# Altium schematic symbol library Interface.SchLib: 107 symbols (part 1 of 2)
Pins are listed as number, name and electrical type; pins without a type are passive.

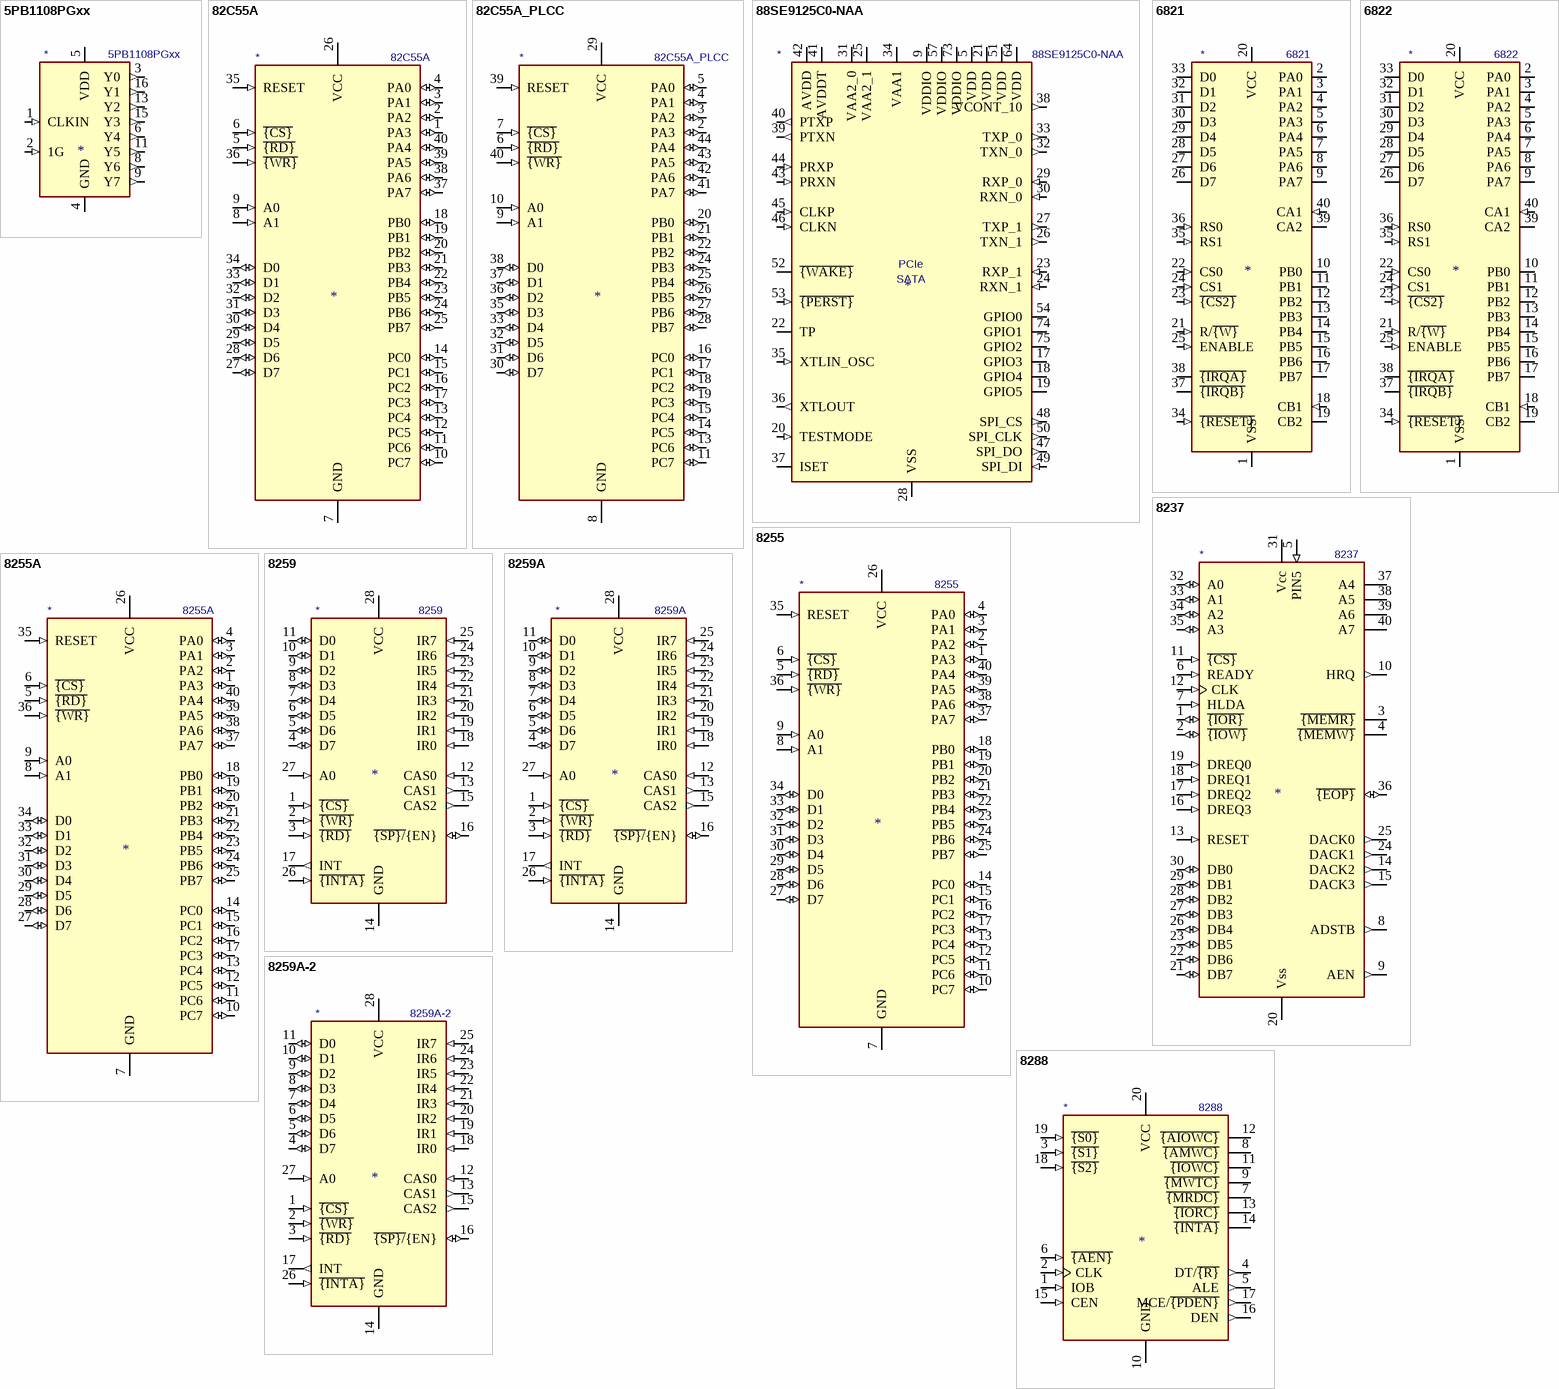
[diagram p0: symbols 5PB1108PGxx to 8288]

## 5PB1108PGxx
designator *  value 5PB1108PGxx
ki_keywords: clock buffer lvcmos; ki_description: 1:8 LVCMOS High-Performance Clock Buffer, 1.8V to 3.3V, TSSOP-16; ki_fp_filters: TSSOP*4.4x5mm*P0.65mm*; Footprint: Package_SO:TSSOP-16_4.4x5mm_P0.65mm; Supplier: https://www.idt.com/document/dst/5pb11xx-datasheet
footprint TSSOP-16_4.4x5mm_P0.65mm
pins: 1 CLKIN (in), 2 1G (in), 3 Y0 (out), 4 GND (power), 5 VDD (power), 6 Y4 (out), 7 GND hidden, 8 Y6 (out), 9 Y7 (out), 10 VDD hidden, 11 Y5 (out), 12 GND hidden, 13 Y2 (out), 14 VDD hidden, 15 Y3 (out), 16 Y1 (out)

## 82C55A
designator *  value 82C55A
ki_keywords: 8255 PPI; ki_description: CHMOS Programmable Peripheral Interface, PDIP-40; ki_fp_filters: DIP*W15.24mm* PDIP*W15.24mm*; Footprint: Package_DIP:DIP-40_W15.24mm; Supplier: http://jap.hu/electronic/8255.pdf
footprint DIP-40_W15.24mm
pins: 1 PA3 (io), 2 PA2 (io), 3 PA1 (io), 4 PA0 (io), 5 ~{{RD}} (in), 6 ~{{CS}} (in), 7 GND (power), 8 A1 (in), 9 A0 (in), 10 PC7 (io), 11 PC6 (io), 12 PC5 (io), 13 PC4 (io), 14 PC0 (io), 15 PC1 (io), 16 PC2 (io), 17 PC3 (io), 18 PB0 (io), 19 PB1 (io), 20 PB2 (io), 21 PB3 (io), 22 PB4 (io), 23 PB5 (io), 24 PB6 (io), 25 PB7 (io), 26 VCC (power), 27 D7 (io), 28 D6 (io), 29 D5 (io), 30 D4 (io), 31 D3 (io), 32 D2 (io), 33 D1 (io), 34 D0 (io), 35 RESET (in), 36 ~{{WR}} (in), 37 PA7 (io), 38 PA6 (io), 39 PA5 (io), 40 PA4 (io)

## 82C55A_PLCC
designator *  value 82C55A_PLCC
ki_keywords: 8255 PPI; ki_description: CHMOS Programmable Peripheral Interface, PLCC-44; ki_fp_filters: *PLCC?44*; Footprint: Package_LCC:PLCC-44; Supplier: http://jap.hu/electronic/8255.pdf
footprint PLCC-44
pins: 1 NC (in) hidden, 2 PA3 (io), 3 PA2 (io), 4 PA1 (io), 5 PA0 (io), 6 ~{{RD}} (in), 7 ~{{CS}} (in), 8 GND (power), 9 A1 (in), 10 A0 (in), 11 PC7 (io), 12 NC (in) hidden, 13 PC6 (io), 14 PC5 (io), 15 PC4 (io), 16 PC0 (io), 17 PC1 (io), 18 PC2 (io), 19 PC3 (io), 20 PB0 (io), 21 PB1 (io), 22 PB2 (io), 23 NC (in) hidden, 24 PB3 (io), 25 PB4 (io), 26 PB5 (io), 27 PB6 (io), 28 PB7 (io), 29 VCC (power), 30 D7 (io), 31 D6 (io), 32 D5 (io), 33 D4 (io), 34 NC (in) hidden, 35 D3 (io), 36 D2 (io), 37 D1 (io), 38 D0 (io), 39 RESET (in), 40 ~{{WR}} (in), 41 PA7 (io), 42 PA6 (io), 43 PA5 (io), 44 PA4 (io)

## 88SE9125C0-NAA
designator *  value 88SE9125C0-NAA
ki_keywords: PCIe2.0 SATA3.0; ki_description: One-Lane PCIe SATA Two-Ports Controller, QFN-76; ki_fp_filters: QFN*1EP*9x9mm*P0.4mm*; Footprint: Package_DFN_QFN:QFN-76-1EP_9x9mm_P0.4mm_EP3.8x3.8mm; Supplier: https://www.marvell.com/documents/bqcwxsoiqfjkcjdjhkvc/
footprint QFN-76-1EP_9x9mm_P0.4mm_EP3.8x3.8mm
pins: 1 NC (in) hidden, 2 NC (in) hidden, 3 NC (in) hidden, 4 NC (in) hidden, 5 VDD (power), 6 NC (in) hidden, 7 NC (in) hidden, 8 NC (in) hidden, 9 VDDIO (power), 10 NC (in) hidden, 11 NC (in) hidden, 12 NC (in) hidden, 13 VDD hidden, 14 NC (in) hidden, 15 NC (in) hidden, 16 NC (in) hidden, 17 GPIO3 (io), 18 GPIO4 (io), 19 GPIO5 (io), 20 TESTMODE (in), 21 VDD (power), 22 TP (io), 23 RXP_1 (in), 24 RXN_1 (in), 25 VAA2_1 (power), 26 TXN_1 (out), 27 TXP_1 (out), 28 VSS (power), 29 RXP_0 (in), 30 RXN_0 (in), 31 VAA2_0 (power), 32 TXN_0 (out), 33 TXP_0 (out), 34 VAA1 (power), 35 XTLIN_OSC (in), 36 XTLOUT (out), 37 ISET (io), 38 VCONT_10 (out), 39 PTXN (out), 40 PTXP (out), 41 AVDDT (power), 42 AVDD (power), 43 PRXN (in), 44 PRXP (in), 45 CLKP (in), 46 CLKN (in), 47 SPI_DO (out), 48 SPI_CS (out), 49 SPI_DI (in), 50 SPI_CLK (out), 51 VDD (power), 52 ~{{WAKE}} (oc), 53 ~{{PERST}} (in), 54 GPIO0 (io), 55 NC (in) hidden, 56 NC (in) hidden, 57 VDDIO (power), 58 NC (in) hidden, 59 NC (in) hidden, 60 NC (in) hidden, 61 NC (in) hidden, 62 NC (in) hidden, 63 NC (in) hidden, 64 VDD (power), 65 NC (in) hidden, 66 NC (in) hidden, 67 NC (in) hidden, 68 NC (in) hidden, 69 NC (in) hidden, 70 NC (in) hidden, 71 VDD hidden, 72 NC (in) hidden, 73 VDDIO (power), 74 GPIO1 (io), 75 GPIO2 (io), 76 NC (in) hidden, 77 VSS hidden
text: PCIe; SATA

## 6821
designator *  value 6821
ki_keywords: PIA; ki_description: Peripheral Interface Adapter 1MHz, DIP-40; ki_fp_filters: DIP*W15.24mm*; Footprint: Package_DIP:DIP-40_W15.24mm; Supplier: http://pdf.datasheetcatalog.com/datasheet/motorola/6821.pdf
footprint DIP-40_W15.24mm
pins: 1 VSS (power), 2 PA0 (io), 3 PA1 (io), 4 PA2 (io), 5 PA3 (io), 6 PA4 (io), 7 PA5 (io), 8 PA6 (io), 9 PA7 (io), 10 PB0 (io), 11 PB1 (io), 12 PB2 (io), 13 PB3 (io), 14 PB4 (io), 15 PB5 (io), 16 PB6 (io), 17 PB7 (io), 18 CB1 (in), 19 CB2 (io), 20 VCC (power), 21 R/~{{W}} (in), 22 CS0 (in), 23 ~{{CS2}} (in), 24 CS1 (in), 25 ENABLE (in), 26 D7 (io), 27 D6 (io), 28 D5 (io), 29 D4 (io), 30 D3 (io), 31 D2 (io), 32 D1 (io), 33 D0 (io), 34 ~{{RESET}} (in), 35 RS1 (in), 36 RS0 (in), 37 ~{{IRQB}} (oc), 38 ~{{IRQA}} (oc), 39 CA2 (io), 40 CA1 (in)

## 6822
designator *  value 6822
ki_keywords: PIA; ki_description: Peripheral Interface Adapter 1MHz, DIP-40; ki_fp_filters: DIP*W15.24mm*; Footprint: Package_DIP:DIP-40_W15.24mm; Supplier: http://pdf1.alldatasheet.com/datasheet-pdf/view/135452/MOTOROLA/MC6822.html
footprint DIP-40_W15.24mm
pins: 1 VSS (power), 2 PA0 (io), 3 PA1 (io), 4 PA2 (io), 5 PA3 (io), 6 PA4 (io), 7 PA5 (io), 8 PA6 (io), 9 PA7 (io), 10 PB0 (io), 11 PB1 (io), 12 PB2 (io), 13 PB3 (io), 14 PB4 (io), 15 PB5 (io), 16 PB6 (io), 17 PB7 (io), 18 CB1 (in), 19 CB2 (io), 20 VCC (power), 21 R/~{{W}} (in), 22 CS0 (in), 23 ~{{CS2}} (in), 24 CS1 (in), 25 ENABLE (in), 26 D7 (io), 27 D6 (io), 28 D5 (io), 29 D4 (io), 30 D3 (io), 31 D2 (io), 32 D1 (io), 33 D0 (io), 34 ~{{RESET}} (in), 35 RS1 (in), 36 RS0 (in), 37 ~{{IRQB}} (oc), 38 ~{{IRQA}} (oc), 39 CA2 (io), 40 CA1 (in)

## 8237
designator *  value 8237
ki_keywords: 8237 DMA; ki_description: Programmable DMA Controller, PDIP-40; ki_fp_filters: DIP*W15.24mm* PDIP*W15.24mm*; Footprint: Package_DIP:DIP-40_W15.24mm; Supplier: https://pdos.csail.mit.edu/6.828/2012/readings/hardware/8237A.pdf
footprint DIP-40_W15.24mm
pins: 1 ~{{IOR}} (io), 2 ~{{IOW}} (io), 3 ~{{MEMR}} (hiz), 4 ~{{MEMW}} (hiz), 5 PIN5 (in), 6 READY (in), 7 HLDA (in), 8 ADSTB (out), 9 AEN (out), 10 HRQ (out), 11 ~{{CS}} (in), 12 CLK (in), 13 RESET (in), 14 DACK2 (out), 15 DACK3 (out), 16 DREQ3 (in), 17 DREQ2 (in), 18 DREQ1 (in), 19 DREQ0 (in), 20 Vss (power), 21 DB7 (io), 22 DB6 (io), 23 DB5 (io), 24 DACK1 (out), 25 DACK0 (out), 26 DB4 (io), 27 DB3 (io), 28 DB2 (io), 29 DB1 (io), 30 DB0 (io), 31 Vcc (power), 32 A0 (io), 33 A1 (io), 34 A2 (io), 35 A3 (io), 36 ~{{EOP}} (io), 37 A4 (hiz), 38 A5 (hiz), 39 A6 (hiz), 40 A7 (hiz)

## 8255
designator *  value 8255
ki_keywords: 8255 PPI; ki_description: Programmable Peripheral Interface, PDIP-40; ki_fp_filters: DIP*W15.24mm* PDIP*W15.24mm*; Footprint: Package_DIP:DIP-40_W15.24mm; Supplier: http://aturing.umcs.maine.edu/~meadow/courses/cos335/Intel8255A.pdf
footprint DIP-40_W15.24mm
pins: 1 PA3 (io), 2 PA2 (io), 3 PA1 (io), 4 PA0 (io), 5 ~{{RD}} (in), 6 ~{{CS}} (in), 7 GND (power), 8 A1 (in), 9 A0 (in), 10 PC7 (io), 11 PC6 (io), 12 PC5 (io), 13 PC4 (io), 14 PC0 (io), 15 PC1 (io), 16 PC2 (io), 17 PC3 (io), 18 PB0 (io), 19 PB1 (io), 20 PB2 (io), 21 PB3 (io), 22 PB4 (io), 23 PB5 (io), 24 PB6 (io), 25 PB7 (io), 26 VCC (power), 27 D7 (io), 28 D6 (io), 29 D5 (io), 30 D4 (io), 31 D3 (io), 32 D2 (io), 33 D1 (io), 34 D0 (io), 35 RESET (in), 36 ~{{WR}} (in), 37 PA7 (io), 38 PA6 (io), 39 PA5 (io), 40 PA4 (io)

## 8255A
designator *  value 8255A
ki_keywords: 8255 PPI; ki_description: Programmable Peripheral Interface, PDIP-40; ki_fp_filters: DIP*W15.24mm* PDIP*W15.24mm*; Footprint: Package_DIP:DIP-40_W15.24mm; Supplier: http://aturing.umcs.maine.edu/~meadow/courses/cos335/Intel8255A.pdf
footprint DIP-40_W15.24mm
pins: 1 PA3 (io), 2 PA2 (io), 3 PA1 (io), 4 PA0 (io), 5 ~{{RD}} (in), 6 ~{{CS}} (in), 7 GND (power), 8 A1 (in), 9 A0 (in), 10 PC7 (io), 11 PC6 (io), 12 PC5 (io), 13 PC4 (io), 14 PC0 (io), 15 PC1 (io), 16 PC2 (io), 17 PC3 (io), 18 PB0 (io), 19 PB1 (io), 20 PB2 (io), 21 PB3 (io), 22 PB4 (io), 23 PB5 (io), 24 PB6 (io), 25 PB7 (io), 26 VCC (power), 27 D7 (io), 28 D6 (io), 29 D5 (io), 30 D4 (io), 31 D3 (io), 32 D2 (io), 33 D1 (io), 34 D0 (io), 35 RESET (in), 36 ~{{WR}} (in), 37 PA7 (io), 38 PA6 (io), 39 PA5 (io), 40 PA4 (io)

## 8259
designator *  value 8259
ki_keywords: PIC; ki_description: 8259, Programmable Interrupt Controller, PDIP-28; ki_fp_filters: DIP*W15.24mm*; Footprint: Package_DIP:DIP-28_W15.24mm; Supplier: http://pdos.csail.mit.edu/6.828/2005/readings/hardware/8259A.pdf
footprint DIP-28_W15.24mm
pins: 1 ~{{CS}} (in), 2 ~{{WR}} (in), 3 ~{{RD}} (in), 4 D7 (io), 5 D6 (io), 6 D5 (io), 7 D4 (io), 8 D3 (io), 9 D2 (io), 10 D1 (io), 11 D0 (io), 12 CAS0 (in), 13 CAS1 (out), 14 GND (power), 15 CAS2 (out), 16 ~{{SP}/}{EN} (io), 17 INT (out), 18 IR0 (in), 19 IR1 (in), 20 IR2 (in), 21 IR3 (in), 22 IR4 (in), 23 IR5 (in), 24 IR6 (in), 25 IR7 (in), 26 ~{{INTA}} (in), 27 A0 (in), 28 VCC (power)

## 8259A
designator *  value 8259A
ki_keywords: PIC; ki_description: 8259, Programmable Interrupt Controller, PDIP-28; ki_fp_filters: DIP*W15.24mm*; Footprint: Package_DIP:DIP-28_W15.24mm; Supplier: http://pdos.csail.mit.edu/6.828/2005/readings/hardware/8259A.pdf
footprint DIP-28_W15.24mm
pins: 1 ~{{CS}} (in), 2 ~{{WR}} (in), 3 ~{{RD}} (in), 4 D7 (io), 5 D6 (io), 6 D5 (io), 7 D4 (io), 8 D3 (io), 9 D2 (io), 10 D1 (io), 11 D0 (io), 12 CAS0 (in), 13 CAS1 (out), 14 GND (power), 15 CAS2 (out), 16 ~{{SP}/}{EN} (io), 17 INT (out), 18 IR0 (in), 19 IR1 (in), 20 IR2 (in), 21 IR3 (in), 22 IR4 (in), 23 IR5 (in), 24 IR6 (in), 25 IR7 (in), 26 ~{{INTA}} (in), 27 A0 (in), 28 VCC (power)

## 8259A-2
designator *  value 8259A-2
ki_keywords: PIC; ki_description: 8259, Programmable Interrupt Controller, PDIP-28; ki_fp_filters: DIP*W15.24mm*; Footprint: Package_DIP:DIP-28_W15.24mm; Supplier: http://pdos.csail.mit.edu/6.828/2005/readings/hardware/8259A.pdf
footprint DIP-28_W15.24mm
pins: 1 ~{{CS}} (in), 2 ~{{WR}} (in), 3 ~{{RD}} (in), 4 D7 (io), 5 D6 (io), 6 D5 (io), 7 D4 (io), 8 D3 (io), 9 D2 (io), 10 D1 (io), 11 D0 (io), 12 CAS0 (in), 13 CAS1 (out), 14 GND (power), 15 CAS2 (out), 16 ~{{SP}/}{EN} (io), 17 INT (out), 18 IR0 (in), 19 IR1 (in), 20 IR2 (in), 21 IR3 (in), 22 IR4 (in), 23 IR5 (in), 24 IR6 (in), 25 IR7 (in), 26 ~{{INTA}} (in), 27 A0 (in), 28 VCC (power)

## 8288
designator *  value 8288
ki_keywords: Bus Controller; ki_description: Bus Controller for Intel 8086/8088/80186/80188 microprocessors, DIP-20; ki_fp_filters: DIP*W7.62mm*; Footprint: Package_DIP:DIP-20_W7.62mm; Supplier: http://www.datasheets360.com/pdf/7208679415653955300
footprint DIP-20_W7.62mm
pins: 1 IOB (in), 2 CLK (in), 3 ~{{S1}} (in), 4 DT/~{{R}} (out), 5 ALE (out), 6 ~{{AEN}} (in), 7 ~{{MRDC}} (hiz), 8 ~{{AMWC}} (hiz), 9 ~{{MWTC}} (hiz), 10 GND (power), 11 ~{{IOWC}} (hiz), 12 ~{{AIOWC}} (hiz), 13 ~{{IORC}} (hiz), 14 ~{{INTA}} (hiz), 15 CEN (in), 16 DEN (out), 17 MCE/~{{PDEN}} (out), 18 ~{{S2}} (in), 19 ~{{S0}} (in), 20 VCC (power)

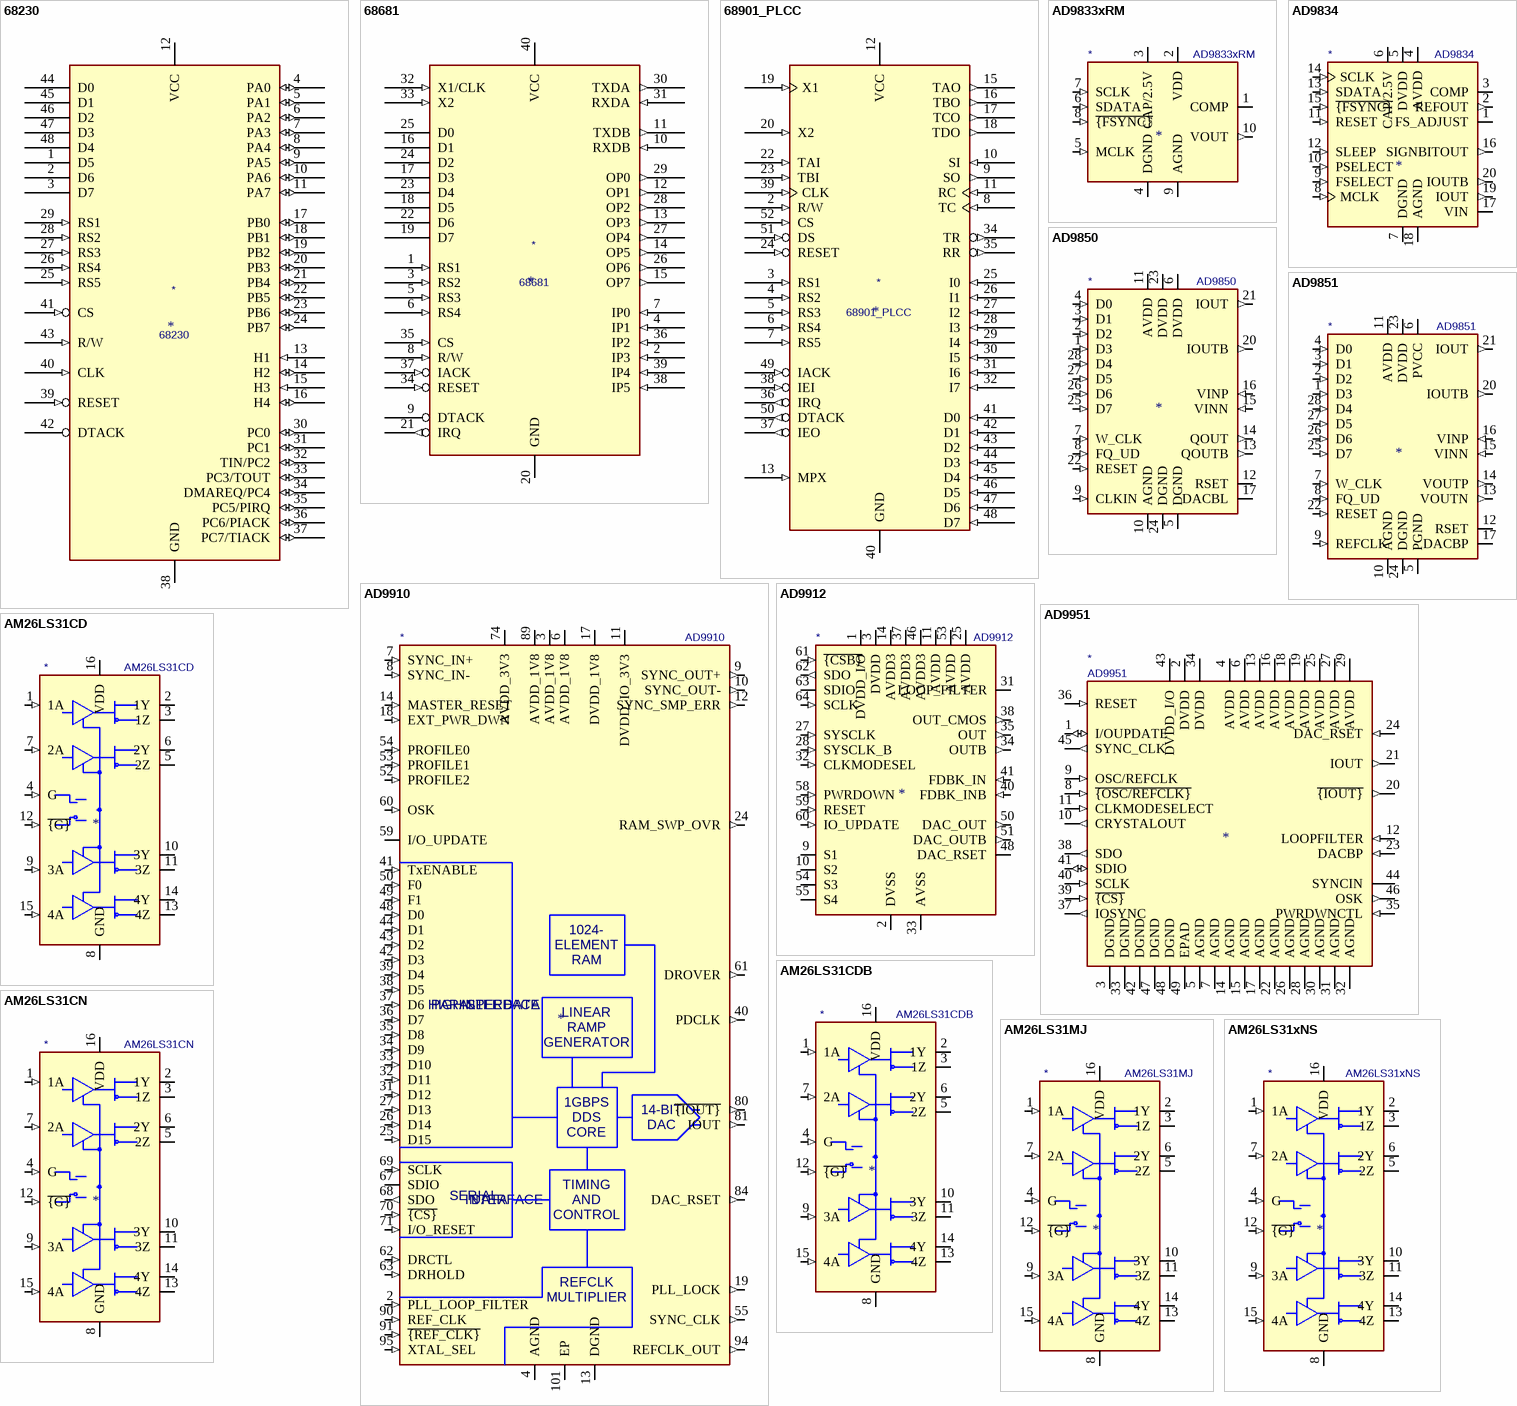
[diagram p1: symbols 68230 to AM26LS31xNS]

## 68230
designator *  value 68230
ki_keywords: MPRO; ki_description: PIT Interface parallele et Timer
pins: 1 D5 (hiz), 2 D6 (hiz), 3 D7 (hiz), 4 PA0 (io), 5 PA1 (io), 6 PA2 (io), 7 PA3 (io), 8 PA4 (io), 9 PA5 (io), 10 PA6 (io), 11 PA7 (io), 12 VCC (power), 13 H1 (in), 14 H2 (io), 15 H3 (in), 16 H4 (io), 17 PB0 (io), 18 PB1 (io), 19 PB2 (io), 20 PB3 (io), 21 PB4 (io), 22 PB5 (io), 23 PB6 (io), 24 PB7 (io), 25 RS5 (in), 26 RS4 (in), 27 RS3 (in), 28 RS2 (in), 29 RS1 (in), 30 PC0 (io), 31 PC1 (io), 32 TIN/PC2 (io), 33 PC3/TOUT (io), 34 DMAREQ/PC4 (io), 35 PC5/PIRQ (io), 36 PC6/PIACK (io), 37 PC7/TIACK (io), 38 GND (power), 39 RESET (in), 40 CLK (in), 41 CS (in), 42 DTACK (oc), 43 R/W (in), 44 D0 (hiz), 45 D1 (hiz), 46 D2 (hiz), 47 D3 (hiz), 48 D4 (hiz)

## 68681
designator *  value 68681
ki_keywords: MPRO; ki_description: Interface serie 2 voies + 1 port parallele
pins: 1 RS1 (in), 2 IP3 (in), 3 RS2 (in), 4 IP1 (in), 5 RS3 (in), 6 RS4 (in), 7 IP0 (in), 8 R/W (in), 9 DTACK (oc), 10 RXDB (in), 11 TXDB (out), 12 OP1 (out), 13 OP3 (out), 14 OP5 (out), 15 OP7 (out), 16 D1 (hiz), 17 D3 (hiz), 18 D5 (hiz), 19 D7 (hiz), 20 GND (power), 21 IRQ (out), 22 D6 (hiz), 23 D4 (hiz), 24 D2 (hiz), 25 D0 (hiz), 26 OP6 (out), 27 OP4 (out), 28 OP2 (out), 29 OP0 (out), 30 TXDA (out), 31 RXDA (in), 32 X1/CLK (in), 33 X2 (in), 34 RESET (in), 35 CS (in), 36 IP2 (in), 37 IACK (in), 38 IP5 (in), 39 IP4 (in), 40 VCC (power)

## 68901_PLCC
designator *  value 68901_PLCC
ki_keywords: MPRO; ki_description: Parallel Interface
pins: 2 R/W (in), 3 RS1 (in), 4 RS2 (in), 5 RS3 (in), 6 RS4 (in), 7 RS5 (in), 8 TC (in), 9 SO (out), 10 SI (in), 11 RC (in), 12 VCC (power), 13 MPX (in), 15 TAO (out), 16 TBO (out), 17 TCO (out), 18 TDO (out), 19 X1 (in), 20 X2 (in), 22 TAI (in), 23 TBI (in), 24 RESET (in), 25 I0 (in), 26 I1 (in), 27 I2 (in), 28 I3 (in), 29 I4 (in), 30 I5 (in), 31 I6 (in), 32 I7 (in), 34 TR (out), 35 RR (out), 36 IRQ (out), 37 IEO (out), 38 IEI (in), 39 CLK (in), 40 GND (power), 41 D0 (in), 42 D1 (in), 43 D2 (in), 44 D3 (in), 45 D4 (in), 46 D5 (in), 47 D6 (in), 48 D7 (in), 49 IACK (in), 50 DTACK (out), 51 DS (in), 52 CS (in)

## AD9833xRM
designator *  value AD9833xRM
ki_keywords: Direct Digital Synthesizer DDS; ki_description: 10 bit 25 MHz Programmable Waveform Generator, 2.3V to 5.5V, 12.65mW, MSOP-10; ki_fp_filters: MSOP*3x3mm*P0.5mm*; Footprint: Package_SO:MSOP-10_3x3mm_P0.5mm; Supplier: https://www.analog.com/media/en/technical-documentation/data-sheets/ad9833.pdf
footprint MSOP-10_3x3mm_P0.5mm
pins: 1 COMP, 2 VDD (power), 3 CAP/2.5V (power), 4 DGND (power), 5 MCLK (in), 6 SDATA (in), 7 SCLK (in), 8 ~{{FSYNC}} (in), 9 AGND (power), 10 VOUT (out)

## AD9834
designator *  value AD9834
ki_keywords: Direct Digital Synthesizer DDS; ki_description: 10 bit 75 MHz Complete Direct Digital Synthesizer, 2.3V to 5.5V, 20mW, TSSOP-20; ki_fp_filters: TSSOP*4.4x6.5mm*P0.65mm*; Footprint: Package_SO:TSSOP-20_4.4x6.5mm_P0.65mm; Supplier: https://www.analog.com/static/imported-files/data_sheets/AD9834.pdf
footprint TSSOP-20_4.4x6.5mm_P0.65mm
pins: 1 FS_ADJUST, 2 REFOUT (out), 3 COMP, 4 AVDD (power), 5 DVDD (power), 6 CAP/2.5V, 7 DGND (power), 8 MCLK (in), 9 FSELECT (in), 10 PSELECT (in), 11 RESET (in), 12 SLEEP (in), 13 SDATA (in), 14 SCLK (in), 15 ~{{FSYNC}} (in), 16 SIGNBITOUT (out), 17 VIN (power), 18 AGND (power), 19 IOUT (out), 20 IOUTB (out)

## AD9850
designator *  value AD9850
ki_keywords: DDS direct digital synthesizer; ki_description: CMOS, 125 MHz, Complete DDS Synthesizer, SSOP-28; ki_fp_filters: SSOP*5.3x10.2mm*P0.65mm*; Footprint: Package_SO:SSOP-28_5.3x10.2mm_P0.65mm; Supplier: https://www.analog.com/media/en/technical-documentation/data-sheets/AD9850.pdf
footprint SSOP-28_5.3x10.2mm_P0.65mm
pins: 1 D3 (in), 2 D2 (in), 3 D1 (in), 4 D0 (in), 5 DGND (power), 6 DVDD (power), 7 W_CLK (in), 8 FQ_UD (in), 9 CLKIN (in), 10 AGND (power), 11 AVDD (power), 12 RSET, 13 QOUTB (out), 14 QOUT (out), 15 VINN (in), 16 VINP (in), 17 DACBL, 18 AVDD hidden, 19 AGND hidden, 20 IOUTB (out), 21 IOUT (out), 22 RESET (in), 23 DVDD (power), 24 DGND (power), 25 D7 (in), 26 D6 (in), 27 D5 (in), 28 D4 (in)

## AD9851
designator *  value AD9851
ki_keywords: DDS direct digital synthesizer; ki_description: CMOS, 180 MHz, DDS/DAC Synthesizer, SSOP-28; ki_fp_filters: SSOP*5.3x10.2mm*P0.65mm*; Footprint: Package_SO:SSOP-28_5.3x10.2mm_P0.65mm; Supplier: https://www.analog.com/media/en/technical-documentation/data-sheets/AD9851.pdf
footprint SSOP-28_5.3x10.2mm_P0.65mm
pins: 1 D3 (in), 2 D2 (in), 3 D1 (in), 4 D0 (in), 5 PGND (power), 6 PVCC (power), 7 W_CLK (in), 8 FQ_UD (in), 9 REFCLK (in), 10 AGND (power), 11 AVDD (power), 12 RSET, 13 VOUTN (out), 14 VOUTP (out), 15 VINN (in), 16 VINP (in), 17 DACBP, 18 AVDD hidden, 19 AGND hidden, 20 IOUTB (out), 21 IOUT (out), 22 RESET (in), 23 DVDD (power), 24 DGND (power), 25 D7 (in), 26 D6 (in), 27 D5 (in), 28 D4 (in)

## AD9910
designator *  value AD9910
ki_keywords: dds direct digital synthesizer; ki_description: 1 GSPS, 14-Bit, 3.3V CMOS, Direct Digital Synthesizer, QFP-100; ki_fp_filters: TQFP*14x14mm*P0.5mm*EP5x5mm*; Footprint: Package_QFP:TQFP-100-1EP_14x14mm_P0.5mm_EP5x5mm; Supplier: https://www.analog.com/media/en/technical-documentation/data-sheets/AD9910.pdf
footprint TQFP-100-1EP_14x14mm_P0.5mm_EP5x5mm
pins: 1 NC (in) hidden, 2 PLL_LOOP_FILTER (in), 3 AVDD_1V8 (power), 4 AGND (power), 5 AGND hidden, 6 AVDD_1V8 (power), 7 SYNC_IN+ (in), 8 SYNC_IN- (in), 9 SYNC_OUT+ (out), 10 SYNC_OUT- (out), 11 DVDD_IO_3V3 (power), 12 SYNC_SMP_ERR (out), 13 DGND (power), 14 MASTER_RESET (in), 15 DVDD_IO_3V3 hidden, 16 DGND hidden, 17 DVDD_1V8 (power), 18 EXT_PWR_DWN (in), 19 PLL_LOCK (out), 20 NC (in) hidden, 21 DVDD_IO_3V3 hidden, 22 DGND hidden, 23 DVDD_1V8 hidden, 24 RAM_SWP_OVR (out), 25 D15 (in), 26 D14 (in), 27 D13 (in), 28 DVDD_IO_3V3 hidden, 29 DGND hidden, 30 DVDD_1V8 hidden, 31 D12 (in), 32 D11 (in), 33 D10 (in), 34 D9 (in), 35 D8 (in), 36 D7 (in), 37 D6 (in), 38 D5 (in), 39 D4 (in), 40 PDCLK (out), 41 TxENABLE (in), 42 D3 (in), 43 D2 (in), 44 D1 (in), 45 DVDD_IO_3V3 hidden, 46 DGND hidden, 47 DVDD_1V8 hidden, 48 D0 (in), 49 F1 (in), 50 F0 (in), 51 DGND hidden, 52 PROFILE2 (in), 53 PROFILE1 (in), 54 PROFILE0 (in), 55 SYNC_CLK (out), 56 DVDD_IO_3V3 hidden, 57 DVDD_1V8 hidden, 58 DGND hidden, 59 I/O_UPDATE (io), 60 OSK (in), 61 DROVER (out), 62 DRCTL (in), 63 DRHOLD (in), 64 DVDD_1V8 hidden, 65 DGND hidden, 66 DVDD_IO_3V3 hidden, 67 SDIO (io), 68 SDO (out), 69 SCLK (in), 70 ~{{CS}} (in), 71 I/O_RESET (in), 72 NC (in) hidden, 73 AGND hidden, 74 AVDD_3V3 (power), 75 AVDD_3V3 hidden, 76 AVDD_3V3 hidden, 77 AVDD_3V3 hidden, 78 AGND hidden, 79 AGND hidden, 80 ~{{IOUT}} (out), 81 IOUT (out), 82 AGND hidden, 83 AVDD_3V3 hidden, 84 DAC_RSET (out), 85 AGND hidden, 86 NC (in) hidden, 87 NC (in) hidden, 88 AGND hidden, 89 AVDD_1V8 (power), 90 REF_CLK (in), 91 ~{{REF_CLK}} (in), 92 AVDD_1V8 hidden, 93 NC (in) hidden, 94 REFCLK_OUT (out), 95 XTAL_SEL (in), 96 AGND hidden, 97 NC (in) hidden, 98 NC (in) hidden, 99 NC (in) hidden, 100 NC (in) hidden, 101 EP (power)
text: 1024-; ELEMENT; RAM; HIGH SPEED; PARALLEL DATA; INTERFACE; LINEAR; RAMP; GENERATOR; 1GBPS; 14-BIT; DDS; DAC; CORE; TIMING; SERIAL; DATA; AND; CONTROL; REFCLK; MULTIPLIER

## AD9912
designator *  value AD9912
ki_keywords: Direct Digital Synthesizer DDS; ki_description: 1 GSPS, 14-bit DAC, Direct Digital Synthesizer, LFCSP-64; ki_fp_filters: LFCSP*1EP*9x9mm*P0.5mm*; Footprint: Package_CSP:LFCSP-64-1EP_9x9mm_P0.5mm_EP5.21x5.21mm; Supplier: https://www.analog.com/media/en/technical-documentation/data-sheets/ad9912.pdf
footprint LFCSP-64-1EP_9x9mm_P0.5mm_EP5.21x5.21mm
pins: 1 DVDD_I/O (power), 2 DVSS (power), 3 DVDD (power), 4 DVSS hidden, 5 DVDD hidden, 6 DVSS hidden, 7 DVDD hidden, 8 DVSS hidden, 9 S1 (hiz), 10 S2 (hiz), 11 AVDD (power), 12 NC (in) hidden, 13 NC (in) hidden, 14 AVDD3 (power), 15 NC (in) hidden, 16 NC (in) hidden, 17 NC (in) hidden, 18 NC (in) hidden, 19 AVDD hidden, 20 NC (in) hidden, 21 NC (in) hidden, 22 NC (in) hidden, 23 AVDD hidden, 24 AVDD hidden, 25 AVDD (power), 26 AVDD hidden, 27 SYSCLK (in), 28 SYSCLK_B (in), 29 AVDD hidden, 30 AVDD hidden, 31 LOOP_FILTER, 32 CLKMODESEL (in), 33 AVSS (power), 34 OUTB (out), 35 OUT (out), 36 AVDD hidden, 37 AVDD3 (power), 38 OUT_CMOS (out), 39 AVSS hidden, 40 FDBK_INB (in), 41 FDBK_IN (in), 42 AVDD hidden, 43 AVSS hidden, 44 AVDD hidden, 45 AVDD hidden, 46 AVDD3 (power), 47 AVDD3 hidden, 48 DAC_RSET, 49 AVDD3 hidden, 50 DAC_OUT (out), 51 DAC_OUTB (out), 52 AVSS hidden, 53 AVDD (power), 54 S3 (hiz), 55 S4 (hiz), 56 DVSS hidden, 57 DVSS hidden, 58 PWRDOWN (in), 59 RESET (in), 60 IO_UPDATE (in), 61 ~{{CSB}} (in), 62 SDO (out), 63 SDIO (io), 64 SCLK (in), 65 AVSS hidden

## AD9951
designator *  value AD9951
ki_keywords: Direct Digital Synthesizer DDS; ki_description: 14-Bit Direct Digital Synthesizer with 400MSPS DAC, 1.8V, TQFP48; ki_fp_filters: TQFP*1EP*7x7mm*P0.5mm*; Footprint: Package_QFP:TQFP-48-1EP_7x7mm_P0.5mm_EP3.5x3.5mm; Supplier: https://www.analog.com/static/imported-files/data_sheets/AD9951.pdf
footprint TQFP-48-1EP_7x7mm_P0.5mm_EP3.5x3.5mm
pins: 1 I/OUPDATE (io), 2 DVDD (power), 3 DGND (power), 4 AVDD (power), 5 AGND (power), 6 AVDD (power), 7 AGND (power), 8 ~{{OSC/REFCLK}} (in), 9 OSC/REFCLK (in), 10 CRYSTALOUT (out), 11 CLKMODESELECT (in), 12 LOOPFILTER (in), 13 AVDD (power), 14 AGND (power), 15 AGND (power), 16 AVDD (power), 17 AGND (power), 18 AVDD (power), 19 AVDD (power), 20 ~{{IOUT}} (out), 21 IOUT (out), 22 AGND (power), 23 DACBP (in), 24 DAC_RSET (in), 25 AVDD (power), 26 AGND (power), 27 AVDD (power), 28 AGND (power), 29 AVDD (power), 30 AGND (power), 31 AGND (power), 32 AGND (power), 33 DGND (power), 34 DVDD (power), 35 PWRDWNCTL (in), 36 RESET (in), 37 IOSYNC (out), 38 SDO (out), 39 ~{{CS}} (in), 40 SCLK (in), 41 SDIO (io), 42 DGND (power), 43 DVDD_I/O (power), 44 SYNCIN (power), 45 SYNC_CLK (out), 46 OSK (out), 47 DGND (power), 48 DGND (power), 49 EPAD (power)

## AM26LS31CD
designator *  value AM26LS31CD
ki_keywords: driver rs485 rs422 differential; ki_description: 32Mbps 3.3V RS485 Quad Line Drivers, SOIC-16; ki_fp_filters: SOIC*3.9x9.9mm*P1.27mm*; Footprint: Package_SO:SOIC-16_3.9x9.9mm_P1.27mm; Supplier: https://www.ti.com/lit/ds/symlink/am26ls31.pdf
footprint SOIC-16_3.9x9.9mm_P1.27mm
pins: 1 1A (in), 2 1Y (hiz), 3 1Z (hiz), 4 G (in), 5 2Z (hiz), 6 2Y (hiz), 7 2A (in), 8 GND (power), 9 3A (in), 10 3Y (hiz), 11 3Z (hiz), 12 ~{{G}} (in), 13 4Z (hiz), 14 4Y (hiz), 15 4A (in), 16 VDD (power)

## AM26LS31CDB
designator *  value AM26LS31CDB
ki_keywords: driver rs485 rs422 differential; ki_description: 32Mbps 3.3V RS485 Quad Line Drivers, SSOP-16; ki_fp_filters: SSOP*5.3x6.2mm*P0.65mm*; Footprint: Package_SO:SSOP-16_5.3x6.2mm_P0.65mm; Supplier: https://www.ti.com/lit/ds/symlink/am26ls31.pdf
footprint SSOP-16_5.3x6.2mm_P0.65mm
pins: 1 1A (in), 2 1Y (hiz), 3 1Z (hiz), 4 G (in), 5 2Z (hiz), 6 2Y (hiz), 7 2A (in), 8 GND (power), 9 3A (in), 10 3Y (hiz), 11 3Z (hiz), 12 ~{{G}} (in), 13 4Z (hiz), 14 4Y (hiz), 15 4A (in), 16 VDD (power)

## AM26LS31CN
designator *  value AM26LS31CN
ki_keywords: driver rs485 rs422 differential; ki_description: 32Mbps 3.3V RS485 Quad Line Drivers, DIP-16; ki_fp_filters: DIP*W7.62mm*; Footprint: Package_DIP:DIP-16_W7.62mm; Supplier: https://www.ti.com/lit/ds/symlink/am26ls31.pdf
footprint DIP-16_W7.62mm
pins: 1 1A (in), 2 1Y (hiz), 3 1Z (hiz), 4 G (in), 5 2Z (hiz), 6 2Y (hiz), 7 2A (in), 8 GND (power), 9 3A (in), 10 3Y (hiz), 11 3Z (hiz), 12 ~{{G}} (in), 13 4Z (hiz), 14 4Y (hiz), 15 4A (in), 16 VDD (power)

## AM26LS31MJ
designator *  value AM26LS31MJ
ki_keywords: driver rs485 rs422 differential; ki_description: 32Mbps 3.3V RS485 Quad Line Drivers, DIP-16; ki_fp_filters: DIP*W7.62mm*; Footprint: Package_DIP:DIP-16_W7.62mm; Supplier: https://www.ti.com/lit/ds/symlink/am26ls31.pdf
footprint DIP-16_W7.62mm
pins: 1 1A (in), 2 1Y (hiz), 3 1Z (hiz), 4 G (in), 5 2Z (hiz), 6 2Y (hiz), 7 2A (in), 8 GND (power), 9 3A (in), 10 3Y (hiz), 11 3Z (hiz), 12 ~{{G}} (in), 13 4Z (hiz), 14 4Y (hiz), 15 4A (in), 16 VDD (power)

## AM26LS31xNS
designator *  value AM26LS31xNS
ki_keywords: driver rs485 rs422 differential; ki_description: 32Mbps 3.3V RS485 Quad Line Drivers, SO-16; ki_fp_filters: SO*5.3x10.2mm*P1.27mm*; Footprint: Package_SO:SO-16_5.3x10.2mm_P1.27mm; Supplier: https://www.ti.com/lit/ds/symlink/am26ls31.pdf
footprint SO-16_5.3x10.2mm_P1.27mm
pins: 1 1A (in), 2 1Y (hiz), 3 1Z (hiz), 4 G (in), 5 2Z (hiz), 6 2Y (hiz), 7 2A (in), 8 GND (power), 9 3A (in), 10 3Y (hiz), 11 3Z (hiz), 12 ~{{G}} (in), 13 4Z (hiz), 14 4Y (hiz), 15 4A (in), 16 VDD (power)

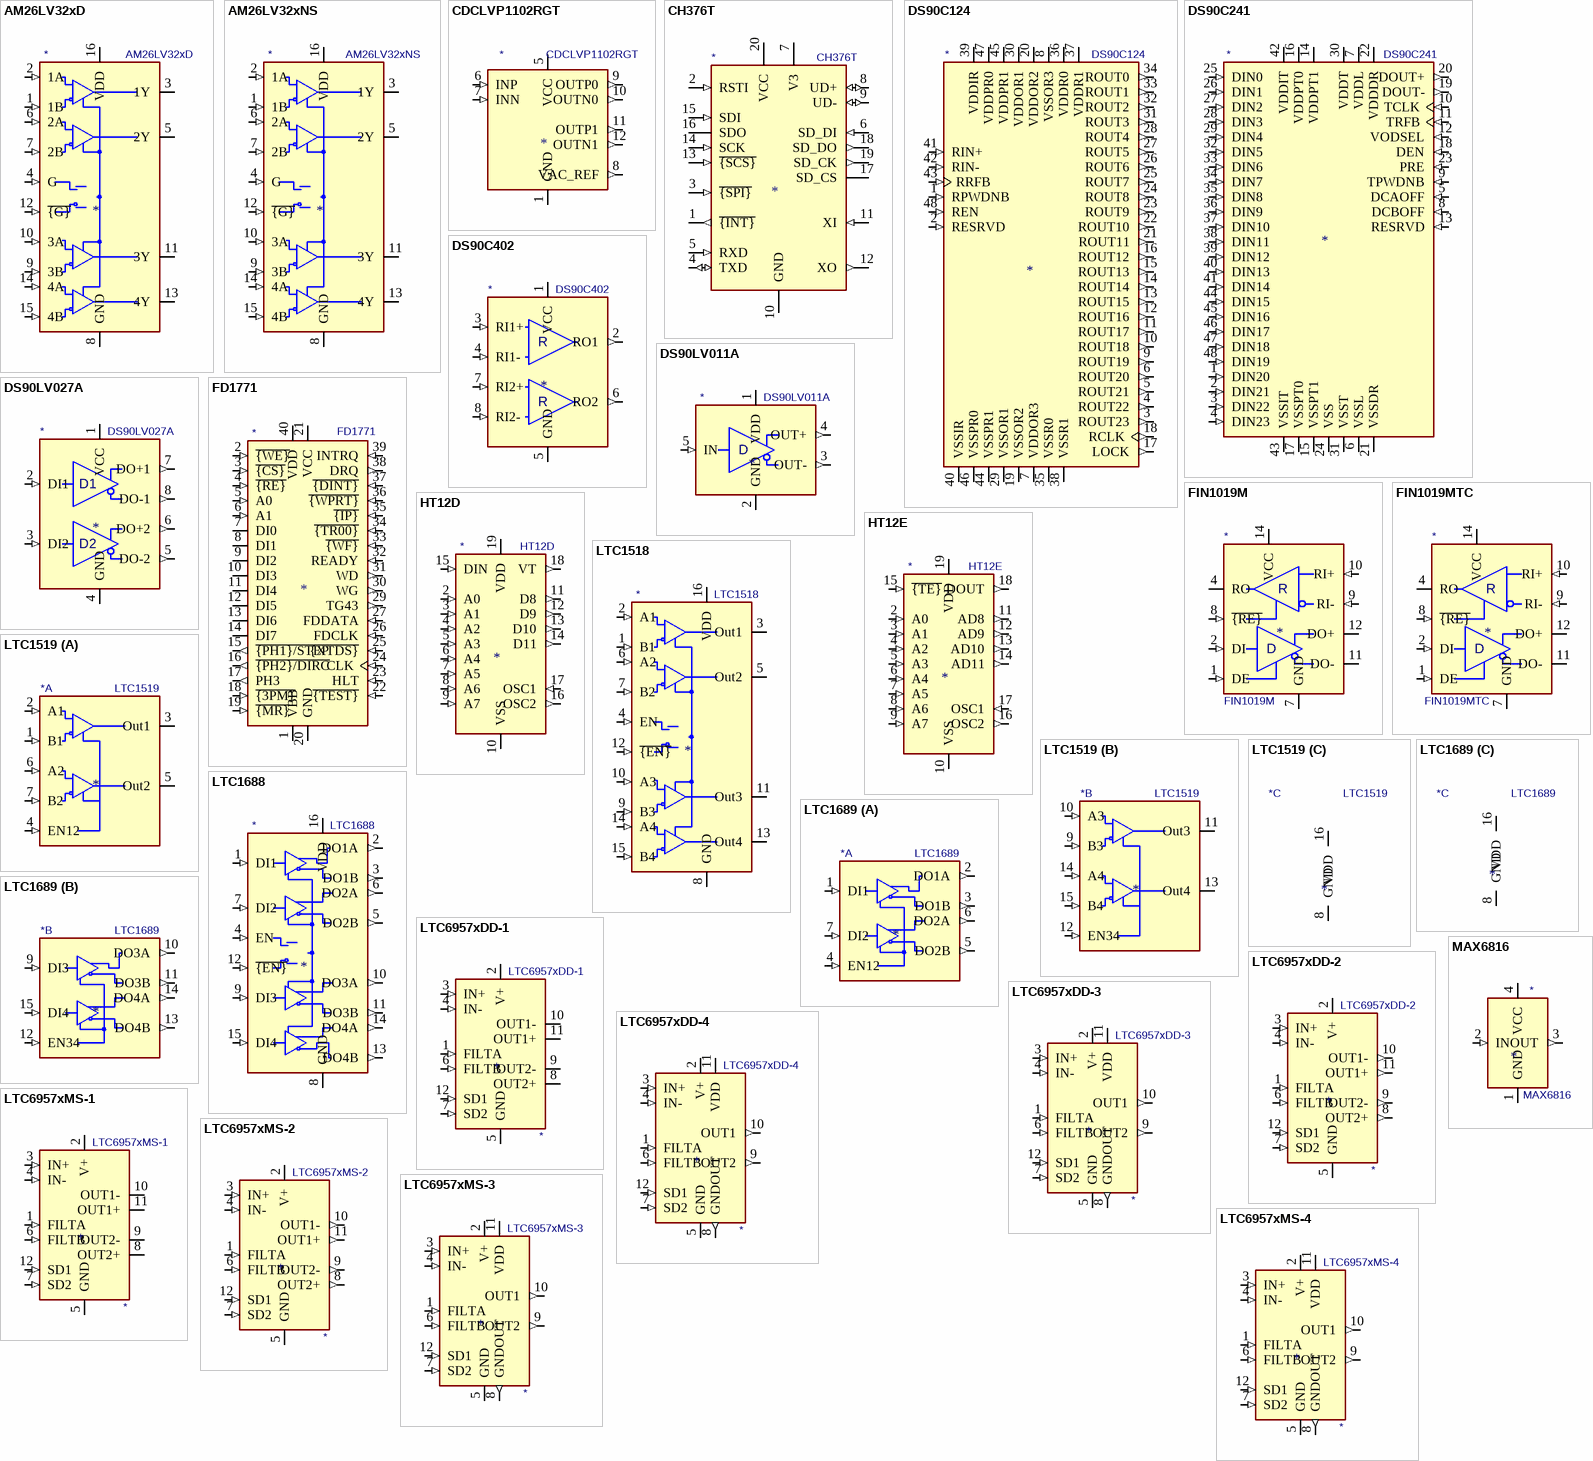
[diagram p2: symbols AM26LV32xD to MAX6816]

## AM26LV32xD
designator *  value AM26LV32xD
ki_keywords: receiver rs485 rs422 differential; ki_description: 32Mbps 3.3V RS485 Quad Line Receivers, SOIC-16; ki_fp_filters: SOIC*3.9x9.9mm*P1.27mm*; Footprint: Package_SO:SOIC-16_3.9x9.9mm_P1.27mm; Supplier: http://www.ti.com/lit/ds/symlink/am26lv32.pdf
footprint SOIC-16_3.9x9.9mm_P1.27mm
pins: 1 1B (in), 2 1A (in), 3 1Y (hiz), 4 G (in), 5 2Y (hiz), 6 2A (in), 7 2B (in), 8 GND (power), 9 3B (in), 10 3A (in), 11 3Y (hiz), 12 ~{{G}} (in), 13 4Y (hiz), 14 4A (in), 15 4B (in), 16 VDD (power)

## AM26LV32xNS
designator *  value AM26LV32xNS
ki_keywords: receiver rs485 rs422 differential; ki_description: 32Mbps 3.3V RS485 Quad Line Receivers, SO-16; ki_fp_filters: SOIC*5.3x10.2mm*P1.27mm*; Footprint: Package_SO:SOIC-16W_5.3x10.2mm_P1.27mm; Supplier: http://www.ti.com/lit/ds/symlink/am26lv32.pdf
footprint SOIC-16W_5.3x10.2mm_P1.27mm
pins: 1 1B (in), 2 1A (in), 3 1Y (hiz), 4 G (in), 5 2Y (hiz), 6 2A (in), 7 2B (in), 8 GND (power), 9 3B (in), 10 3A (in), 11 3Y (hiz), 12 ~{{G}} (in), 13 4Y (hiz), 14 4A (in), 15 4B (in), 16 VDD (power)

## CDCLVP1102RGT
designator *  value CDCLVP1102RGT
ki_keywords: Clock Buffer LVDS; ki_description: Two-LVPECL Output, High-Performance Clock Buffer, VQFN-16; ki_fp_filters: VQFN*1EP*3x3mm*P0.5mm*; Footprint: Package_DFN_QFN:VQFN-16-1EP_3x3mm_P0.5mm_EP1.6x1.6mm_ThermalVias; Supplier: http://www.ti.com/lit/ds/symlink/cdclvp1102.pdf
footprint VQFN-16-1EP_3x3mm_P0.5mm_EP1.6x1.6mm_ThermalVias
pins: 1 GND (power), 2 NC (in) hidden, 3 NC (in) hidden, 4 NC (in) hidden, 5 VCC (power), 6 INP (in), 7 INN (in), 8 VAC_REF (out), 9 OUTP0 (out), 10 OUTN0 (out), 11 OUTP1 (out), 12 OUTN1 (out), 13 NC (in) hidden, 14 NC (in) hidden, 15 NC (in) hidden, 16 GND hidden, 17 GND hidden

## CH376T
designator *  value CH376T
ki_keywords: USB Mass-Storage SD Card Interface; ki_description: File Management USB Flash Card SD Interface, SSOP-20; ki_fp_filters: SSOP*5.3x7.2mm*P0.65mm*; Footprint: Package_SO:SSOP-20_5.3x7.2mm_P0.65mm; Supplier: https://www.mpja.com/download/ch376ds1.pdf
footprint SSOP-20_5.3x7.2mm_P0.65mm
pins: 1 ~{{INT}} (out), 2 RSTI (in), 3 ~{{SPI}} (in), 4 TXD (io), 5 RXD (in), 6 SD_DI (in), 7 V3, 8 UD+ (io), 9 UD- (io), 10 GND (power), 11 XI (in), 12 XO (out), 13 ~{{SCS}} (in), 14 SCK (in), 15 SDI (in), 16 SDO (hiz), 17 SD_CS (oc), 18 SD_DO (out), 19 SD_CK (out), 20 VCC (power)

## DS90C124
designator *  value DS90C124
ki_keywords: DC-Balanced 24-Bit FPD-Link II Deserializer; ki_description: DC-Balanced 24-Bit FPD-Link II Deserializer, TQFP-48; ki_fp_filters: TQFP*7x7mm*P0.5mm*; Footprint: Package_QFP:TQFP-48_7x7mm_P0.5mm; Supplier: http://www.ti.com/lit/ds/symlink/ds90c241.pdf
footprint TQFP-48_7x7mm_P0.5mm
pins: 1 RPWDNB (in), 2 RESRVD (in), 3 ROUT23 (out), 4 ROUT22 (out), 5 ROUT21 (out), 6 ROUT20 (out), 7 VDDOR3 (power), 8 VSSOR3 (power), 9 ROUT19 (out), 10 ROUT18 (out), 11 ROUT17 (out), 12 ROUT16 (out), 13 ROUT15 (out), 14 ROUT14 (out), 15 ROUT13 (out), 16 ROUT12 (out), 17 LOCK (out), 18 RCLK (out), 19 VSSOR2 (power), 20 VDDOR2 (power), 21 ROUT11 (out), 22 ROUT10 (out), 23 ROUT9 (out), 24 ROUT8 (out), 25 ROUT7 (out), 26 ROUT6 (out), 27 ROUT5 (out), 28 ROUT4 (out), 29 VSSOR1 (power), 30 VDDOR1 (power), 31 ROUT3 (out), 32 ROUT2 (out), 33 ROUT1 (out), 34 ROUT0 (out), 35 VSSR0 (power), 36 VDDR0 (power), 37 VDDR1 (power), 38 VSSR1 (power), 39 VDDIR (power), 40 VSSIR (power), 41 RIN+ (in), 42 RIN- (in), 43 RRFB (in), 44 VSSPR1 (power), 45 VDDPR1 (power), 46 VSSPR0 (power), 47 VDDPR0 (power), 48 REN (in)

## DS90C241
designator *  value DS90C241
ki_keywords: DC-Balanced 24-Bit FPD-Link II Serializer; ki_description: DC-Balanced 24-Bit FPD-Link II Serializer, TQFP-48; ki_fp_filters: TQFP*7x7mm*P0.5mm*; Footprint: Package_QFP:TQFP-48_7x7mm_P0.5mm; Supplier: http://www.ti.com/lit/ds/symlink/ds90c241.pdf
footprint TQFP-48_7x7mm_P0.5mm
pins: 1 DIN20 (in), 2 DIN21 (in), 3 DIN22 (in), 4 DIN23 (in), 5 DCAOFF (in), 6 VSSL (power), 7 VDDL (power), 8 DCBOFF (in), 9 TPWDNB (in), 10 TCLK (in), 11 TRFB (in), 12 VODSEL (in), 13 RESRVD (in), 14 VDDPT1 (power), 15 VSSPT1 (power), 16 VDDPT0 (power), 17 VSSPT0 (power), 18 DEN (in), 19 DOUT- (out), 20 DOUT+ (out), 21 VSSDR (power), 22 VDDDR (power), 23 PRE (in), 24 VSS (power), 25 DIN0 (in), 26 DIN1 (in), 27 DIN2 (in), 28 DIN3 (in), 29 DIN4 (in), 30 VDDT (power), 31 VSST (power), 32 DIN5 (in), 33 DIN6 (in), 34 DIN7 (in), 35 DIN8 (in), 36 DIN9 (in), 37 DIN10 (in), 38 DIN11 (in), 39 DIN12 (in), 40 DIN13 (in), 41 DIN14 (in), 42 VDDIT (power), 43 VSSIT (power), 44 DIN15 (in), 45 DIN16 (in), 46 DIN17 (in), 47 DIN18 (in), 48 DIN19 (in)

## DS90C402
designator *  value DS90C402
ki_keywords: Dual LVDS Receiver; ki_description: Dual LVDS Receiver, >155Mbps, 5V, SOIC-8; ki_fp_filters: SOIC*3.9x4.9mm*P1.27mm*; Footprint: Package_SO:SOIC-8_3.9x4.9mm_P1.27mm; Supplier: http://www.ti.com/lit/ds/symlink/ds90c402.pdf
footprint SOIC-8_3.9x4.9mm_P1.27mm
pins: 1 VCC (power), 2 RO1 (out), 3 RI1+ (in), 4 RI1- (in), 5 GND (power), 6 RO2 (out), 7 RI2+ (in), 8 RI2- (in)
text: R

## DS90LV011A
designator *  value DS90LV011A
ki_keywords: LVDS Driver; ki_description: LVDS Single High Speed Differential Driver, 400Mbps, SOT-23-5; ki_fp_filters: SOT?23*; Footprint: Package_TO_SOT_SMD:SOT-23-5; Supplier: http://www.ti.com/lit/ds/symlink/ds90lv011a.pdf
footprint SOT-23-5
pins: 1 VDD (power), 2 GND (power), 3 OUT- (out), 4 OUT+ (out), 5 IN (in)
text: D

## DS90LV027A
designator *  value DS90LV027A
ki_keywords: Dual LVDS Driver; ki_description: LVDS Dual High Speed Differential Driver, >600MBps, SOIC-8; ki_fp_filters: SOIC*3.9x4.9mm*P1.27mm*; Footprint: Package_SO:SOIC-8_3.9x4.9mm_P1.27mm; Supplier: http://www.ti.com/lit/ds/symlink/ds90lv027a.pdf
footprint SOIC-8_3.9x4.9mm_P1.27mm
pins: 1 VCC (power), 2 DI1 (in), 3 DI2 (in), 4 GND (power), 5 DO-2 (out), 6 DO+2 (out), 7 DO+1 (out), 8 DO-1 (out)
text: D1; D2

## FD1771
designator *  value FD1771
ki_keywords: Floppy disk controller; ki_description: Floppy disk controller, DIP-40; ki_fp_filters: DIP*W15.24mm*; Footprint: Package_DIP:DIP-40_W15.24mm; Supplier: https://amaus.net/static/S100/western%20digital/datasheet/Western%20Digital%20FD1771%20Specification%20197710.pdf
footprint DIP-40_W15.24mm
pins: 1 VBB (power), 2 ~{{WE}} (in), 3 ~{{CS}} (in), 4 ~{{RE}} (in), 5 A0 (in), 6 A1 (in), 7 DI0 (hiz), 8 DI1 (hiz), 9 DI2 (hiz), 10 DI3 (hiz), 11 DI4 (hiz), 12 DI5 (hiz), 13 DI6 (hiz), 14 DI7 (hiz), 15 ~{{PH1}/STEP} (out), 16 ~{{PH2}/DIRC} (out), 17 PH3 (out), 18 ~{{3PM}} (in), 19 ~{{MR}} (in), 20 GND (power), 21 VCC (power), 22 ~{{TEST}} (in), 23 HLT (in), 24 CLK (in), 25 ~{{XTDS}} (in), 26 FDCLK (in), 27 FDDATA (in), 29 TG43 (out), 30 WG (out), 31 WD (out), 32 READY (in), 33 ~{{WF}} (in), 34 ~{{TR00}} (in), 35 ~{{IP}} (in), 36 ~{{WPRT}} (in), 37 ~{{DINT}} (in), 38 DRQ (out), 39 INTRQ (in), 40 VDD (power)

## FIN1019M
designator *  value FIN1019M
ki_keywords: lvds driver receiver; ki_description: 3.3V LVDS High Speed Differential Driver/Receiver, 400Mbps, SOIC-14; ki_fp_filters: SOIC*3.9x8.7mm*P1.27mm*; Footprint: Package_SO:SOIC-14_3.9x8.7mm_P1.27mm; Supplier: http://www.onsemi.com/pub/Collateral/FIN1019-D.pdf
footprint SOIC-14_3.9x8.7mm_P1.27mm
pins: 1 DE (in), 2 DI (in), 3 NC (in) hidden, 4 RO (hiz), 5 NC (in) hidden, 6 NC (in) hidden, 7 GND (power), 8 ~{{RE}} (in), 9 RI- (in), 10 RI+ (in), 11 DO- (hiz), 12 DO+ (hiz), 13 NC (in) hidden, 14 VCC (power)
text: R; D

## FIN1019MTC
designator *  value FIN1019MTC
ki_keywords: lvds driver receiver; ki_description: 3.3V LVDS High Speed Differential Driver/Receiver, 400Mbps, TSSOP-14; ki_fp_filters: TSSOP*4.4x5mm*P0.65mm*; Footprint: Package_SO:TSSOP-14_4.4x5mm_P0.65mm; Supplier: http://www.onsemi.com/pub/Collateral/FIN1019-D.pdf
footprint TSSOP-14_4.4x5mm_P0.65mm
pins: 1 DE (in), 2 DI (in), 3 NC (in) hidden, 4 RO (hiz), 5 NC (in) hidden, 6 NC (in) hidden, 7 GND (power), 8 ~{{RE}} (in), 9 RI- (in), 10 RI+ (in), 11 DO- (hiz), 12 DO+ (hiz), 13 NC (in) hidden, 14 VCC (power)
text: R; D

## HT12D
designator *  value HT12D
ki_keywords: Serial Decoder; ki_description: 2^12 serial decoder, SOP-20; ki_fp_filters: SOP*7.5x12.8mm*P1.27mm*; Footprint: Package_SO:SOP-20_7.5x12.8mm_P1.27mm; Supplier: https://www.holtek.com/documents/10179/116711/2_12dv120.pdf
footprint SOP-20_7.5x12.8mm_P1.27mm
pins: 1 NC (in) hidden, 2 A0 (in), 3 A1 (in), 4 A2 (in), 5 A3 (in), 6 A4 (in), 7 A5 (in), 8 A6 (in), 9 A7 (in), 10 VSS (power), 11 D8 (out), 12 D9 (out), 13 D10 (out), 14 D11 (out), 15 DIN (in), 16 OSC2 (out), 17 OSC1 (in), 18 VT (out), 19 VDD (power), 20 NC (in) hidden

## HT12E
designator *  value HT12E
ki_keywords: Serial Encoder; ki_description: 2^12 serial encoder, SOP-20; ki_fp_filters: SOP*7.5x12.8mm*P1.27mm*; Footprint: Package_SO:SOP-20_7.5x12.8mm_P1.27mm; Supplier: https://www.holtek.com/documents/10179/116711/2_12ev120.pdf
footprint SOP-20_7.5x12.8mm_P1.27mm
pins: 1 NC (in) hidden, 2 A0 (in), 3 A1 (in), 4 A2 (in), 5 A3 (in), 6 A4 (in), 7 A5 (in), 8 A6 (in), 9 A7 (in), 10 VSS (power), 11 AD8 (out), 12 AD9 (out), 13 AD10 (out), 14 AD11 (out), 15 ~{{TE}} (in), 16 OSC2 (out), 17 OSC1 (in), 18 DOUT (out), 19 VDD (power), 20 NC (in) hidden

## LTC1518
designator *  value LTC1518
ki_keywords: receiver rs485 rs422 differential; ki_description: 52Mbps Precision Delay RS485 Quad Line Receivers; ki_fp_filters: SOIC*16*3.9x9.9mm*P1.27mm*; Footprint: Package_SO:SOIC-16_3.9x9.9mm_P1.27mm; Supplier: https://www.analog.com/media/en/technical-documentation/data-sheets/15189fa.pdf
footprint SOIC-16_3.9x9.9mm_P1.27mm
pins: 1 B1 (in), 2 A1 (in), 3 Out1 (hiz), 4 EN (in), 5 Out2 (hiz), 6 A2 (in), 7 B2 (in), 8 GND (power), 9 B3 (in), 10 A3 (in), 11 Out3 (hiz), 12 ~{{EN}} (in), 13 Out4 (hiz), 14 A4 (in), 15 B4 (in), 16 VDD (power)

## LTC1519
designator *  value LTC1519
ki_keywords: receiver rs485 rs422 differential; ki_description: 52Mbps Precision Delay RS485 Quad Line Receivers; ki_fp_filters: SOIC*16*3.9x9.9mm*P1.27mm*; Footprint: Package_SO:SOIC-16_3.9x9.9mm_P1.27mm; Supplier: https://www.analog.com/media/en/technical-documentation/data-sheets/15189fa.pdf
footprint SOIC-16_3.9x9.9mm_P1.27mm
part A pins: 1 B1 (in), 2 A1 (in), 3 Out1 (hiz), 4 EN12 (in), 5 Out2 (hiz), 6 A2 (in), 7 B2 (in)
part B pins: 9 B3 (in), 10 A3 (in), 11 Out3 (hiz), 12 EN34 (in), 13 Out4 (hiz), 14 A4 (in), 15 B4 (in)
part C pins: 8 GND (power), 16 VDD (power)
2 alternate drawings of the same symbol

## LTC1688
designator *  value LTC1688
ki_keywords: driver rs485 rs422 differential; ki_description: 100Mbps RS485 Hot Swapable Quad Drivers; ki_fp_filters: SOIC*16*3.9x9.9mm*P1.27mm*; Footprint: Package_SO:SOIC-16_3.9x9.9mm_P1.27mm; Supplier: https://www.analog.com/media/en/technical-documentation/data-sheets/16889fa.pdf
footprint SOIC-16_3.9x9.9mm_P1.27mm
pins: 1 DI1 (in), 2 DO1A (out), 3 DO1B (out), 4 EN (in), 5 DO2B (out), 6 DO2A (out), 7 DI2 (in), 8 GND (power), 9 DI3 (in), 10 DO3A (out), 11 DO3B (out), 12 ~{{EN}} (in), 13 DO4B (out), 14 DO4A (out), 15 DI4 (in), 16 VDD (power)

## LTC1689
designator *  value LTC1689
ki_keywords: driver rs485 rs422 differential; ki_description: 100Mbps RS485 Hot Swapable Quad Drivers; ki_fp_filters: SOIC*16*3.9x9.9mm*P1.27mm*; Footprint: Package_SO:SOIC-16_3.9x9.9mm_P1.27mm; Supplier: https://www.analog.com/media/en/technical-documentation/data-sheets/16889fa.pdf
footprint SOIC-16_3.9x9.9mm_P1.27mm
part A pins: 1 DI1 (in), 2 DO1A (out), 3 DO1B (out), 4 EN12 (in), 5 DO2B (out), 6 DO2A (out), 7 DI2 (in)
part B pins: 9 DI3 (in), 10 DO3A (out), 11 DO3B (out), 12 EN34 (in), 13 DO4B (out), 14 DO4A (out), 15 DI4 (in)
part C pins: 8 GND (power), 16 VDD (power)

## LTC6957xDD-1
designator *  value LTC6957xDD-1
ki_keywords: LTC clock converter; ki_description: Low Phase Noise, Dual Output Buffer/Driver/Logic Converter, LVPECL, DFN-12; ki_fp_filters: DFN*3x3mm*P0.45mm*EP1.66x2.38mm*; Footprint: Package_DFN_QFN:DFN-12-1EP_3x3mm_P0.45mm_EP1.66x2.38mm; Supplier: https://www.analog.com/media/en/technical-documentation/data-sheets/6957fb.pdf
footprint DFN-12-1EP_3x3mm_P0.45mm_EP1.66x2.38mm
pins: 1 FILTA (in), 2 V+ (power), 3 IN+ (in), 4 IN- (in), 5 GND (power), 6 FILTB (in), 7 SD2 (in), 8 OUT2+ (oe), 9 OUT2- (oe), 10 OUT1- (oe), 11 OUT1+ (oe), 12 SD1 (in), 13 GND hidden

## LTC6957xDD-2
designator *  value LTC6957xDD-2
ki_keywords: LTC clock converter; ki_description: Low Phase Noise, Dual Output Buffer/Driver/Logic Converter, LVDS, DFN-12; ki_fp_filters: DFN*3x3mm*P0.45mm*EP1.66x2.38mm*; Footprint: Package_DFN_QFN:DFN-12-1EP_3x3mm_P0.45mm_EP1.66x2.38mm; Supplier: https://www.analog.com/media/en/technical-documentation/data-sheets/6957fb.pdf
footprint DFN-12-1EP_3x3mm_P0.45mm_EP1.66x2.38mm
pins: 1 FILTA (in), 2 V+ (power), 3 IN+ (in), 4 IN- (in), 5 GND (power), 6 FILTB (in), 7 SD2 (in), 8 OUT2+ (out), 9 OUT2- (out), 10 OUT1- (out), 11 OUT1+ (out), 12 SD1 (in), 13 GND hidden

## LTC6957xDD-3
designator *  value LTC6957xDD-3
ki_keywords: LTC clock converter; ki_description: Low Phase Noise, Dual Output Buffer/Driver/Logic Converter, CMOS In-Phase Outputs, DFN-12; ki_fp_filters: DFN*3x3mm*P0.45mm*EP1.66x2.38mm*; Footprint: Package_DFN_QFN:DFN-12-1EP_3x3mm_P0.45mm_EP1.66x2.38mm; Supplier: https://www.analog.com/media/en/technical-documentation/data-sheets/6957fb.pdf
footprint DFN-12-1EP_3x3mm_P0.45mm_EP1.66x2.38mm
pins: 1 FILTA (in), 2 V+ (power), 3 IN+ (in), 4 IN- (in), 5 GND (power), 6 FILTB (in), 7 SD2 (in), 8 GNDOUT (out), 9 OUT2 (out), 10 OUT1 (out), 11 VDD (power), 12 SD1 (in), 13 GND hidden

## LTC6957xDD-4
designator *  value LTC6957xDD-4
ki_keywords: LTC clock converter; ki_description: Low Phase Noise, Dual Output Buffer/Driver/Logic Converter, CMOS Complementary Outputs, DFN-12; ki_fp_filters: DFN*3x3mm*P0.45mm*EP1.66x2.38mm*; Footprint: Package_DFN_QFN:DFN-12-1EP_3x3mm_P0.45mm_EP1.66x2.38mm; Supplier: https://www.analog.com/media/en/technical-documentation/data-sheets/6957fb.pdf
footprint DFN-12-1EP_3x3mm_P0.45mm_EP1.66x2.38mm
pins: 1 FILTA (in), 2 V+ (power), 3 IN+ (in), 4 IN- (in), 5 GND (power), 6 FILTB (in), 7 SD2 (in), 8 GNDOUT (out), 9 OUT2 (out), 10 OUT1 (out), 11 VDD (power), 12 SD1 (in), 13 GND hidden

## LTC6957xMS-1
designator *  value LTC6957xMS-1
ki_keywords: LTC clock converter; ki_description: Low Phase Noise, Dual Output Buffer/Driver/Logic Converter, LVPECL, MSOP-12; ki_fp_filters: MSOP*3x4mm*P0.65mm*; Footprint: Package_SO:MSOP-12_3x4mm_P0.65mm; Supplier: https://www.analog.com/media/en/technical-documentation/data-sheets/6957fb.pdf
footprint MSOP-12_3x4mm_P0.65mm
pins: 1 FILTA (in), 2 V+ (power), 3 IN+ (in), 4 IN- (in), 5 GND (power), 6 FILTB (in), 7 SD2 (in), 8 OUT2+ (oe), 9 OUT2- (oe), 10 OUT1- (oe), 11 OUT1+ (oe), 12 SD1 (in)

## LTC6957xMS-2
designator *  value LTC6957xMS-2
ki_keywords: LTC clock converter; ki_description: Low Phase Noise, Dual Output Buffer/Driver/Logic Converter, LVDS, MSOP-12; ki_fp_filters: MSOP*3x4mm*P0.65mm*; Footprint: Package_SO:MSOP-12_3x4mm_P0.65mm; Supplier: https://www.analog.com/media/en/technical-documentation/data-sheets/6957fb.pdf
footprint MSOP-12_3x4mm_P0.65mm
pins: 1 FILTA (in), 2 V+ (power), 3 IN+ (in), 4 IN- (in), 5 GND (power), 6 FILTB (in), 7 SD2 (in), 8 OUT2+ (out), 9 OUT2- (out), 10 OUT1- (out), 11 OUT1+ (out), 12 SD1 (in)

## LTC6957xMS-3
designator *  value LTC6957xMS-3
ki_keywords: LTC clock converter; ki_description: Low Phase Noise, Dual Output Buffer/Driver/Logic Converter, CMOS In-Phase Outputs, MSOP-12; ki_fp_filters: MSOP*3x4mm*P0.65mm*; Footprint: Package_SO:MSOP-12_3x4mm_P0.65mm; Supplier: https://www.analog.com/media/en/technical-documentation/data-sheets/6957fb.pdf
footprint MSOP-12_3x4mm_P0.65mm
pins: 1 FILTA (in), 2 V+ (power), 3 IN+ (in), 4 IN- (in), 5 GND (power), 6 FILTB (in), 7 SD2 (in), 8 GNDOUT (out), 9 OUT2 (out), 10 OUT1 (out), 11 VDD (power), 12 SD1 (in)

## LTC6957xMS-4
designator *  value LTC6957xMS-4
ki_keywords: LTC clock converter; ki_description: Low Phase Noise, Dual Output Buffer/Driver/Logic Converter, CMOS Complementary Outputs, MSOP-12; ki_fp_filters: MSOP*3x4mm*P0.65mm*; Footprint: Package_SO:MSOP-12_3x4mm_P0.65mm; Supplier: https://www.analog.com/media/en/technical-documentation/data-sheets/6957fb.pdf
footprint MSOP-12_3x4mm_P0.65mm
pins: 1 FILTA (in), 2 V+ (power), 3 IN+ (in), 4 IN- (in), 5 GND (power), 6 FILTB (in), 7 SD2 (in), 8 GNDOUT (out), 9 OUT2 (out), 10 OUT1 (out), 11 VDD (power), 12 SD1 (in)

## MAX6816
designator *  value MAX6816
ki_keywords: Switch Debouncer; ki_description: Single Switch  Debouncer, SOT-143; ki_fp_filters: SOT*143*; Footprint: Package_TO_SOT_SMD:SOT-143; Supplier: https://datasheets.maximintegrated.com/en/ds/1896.pdf
footprint SOT-143
pins: 1 GND (power), 2 IN (in), 3 OUT (out), 4 VCC (power)

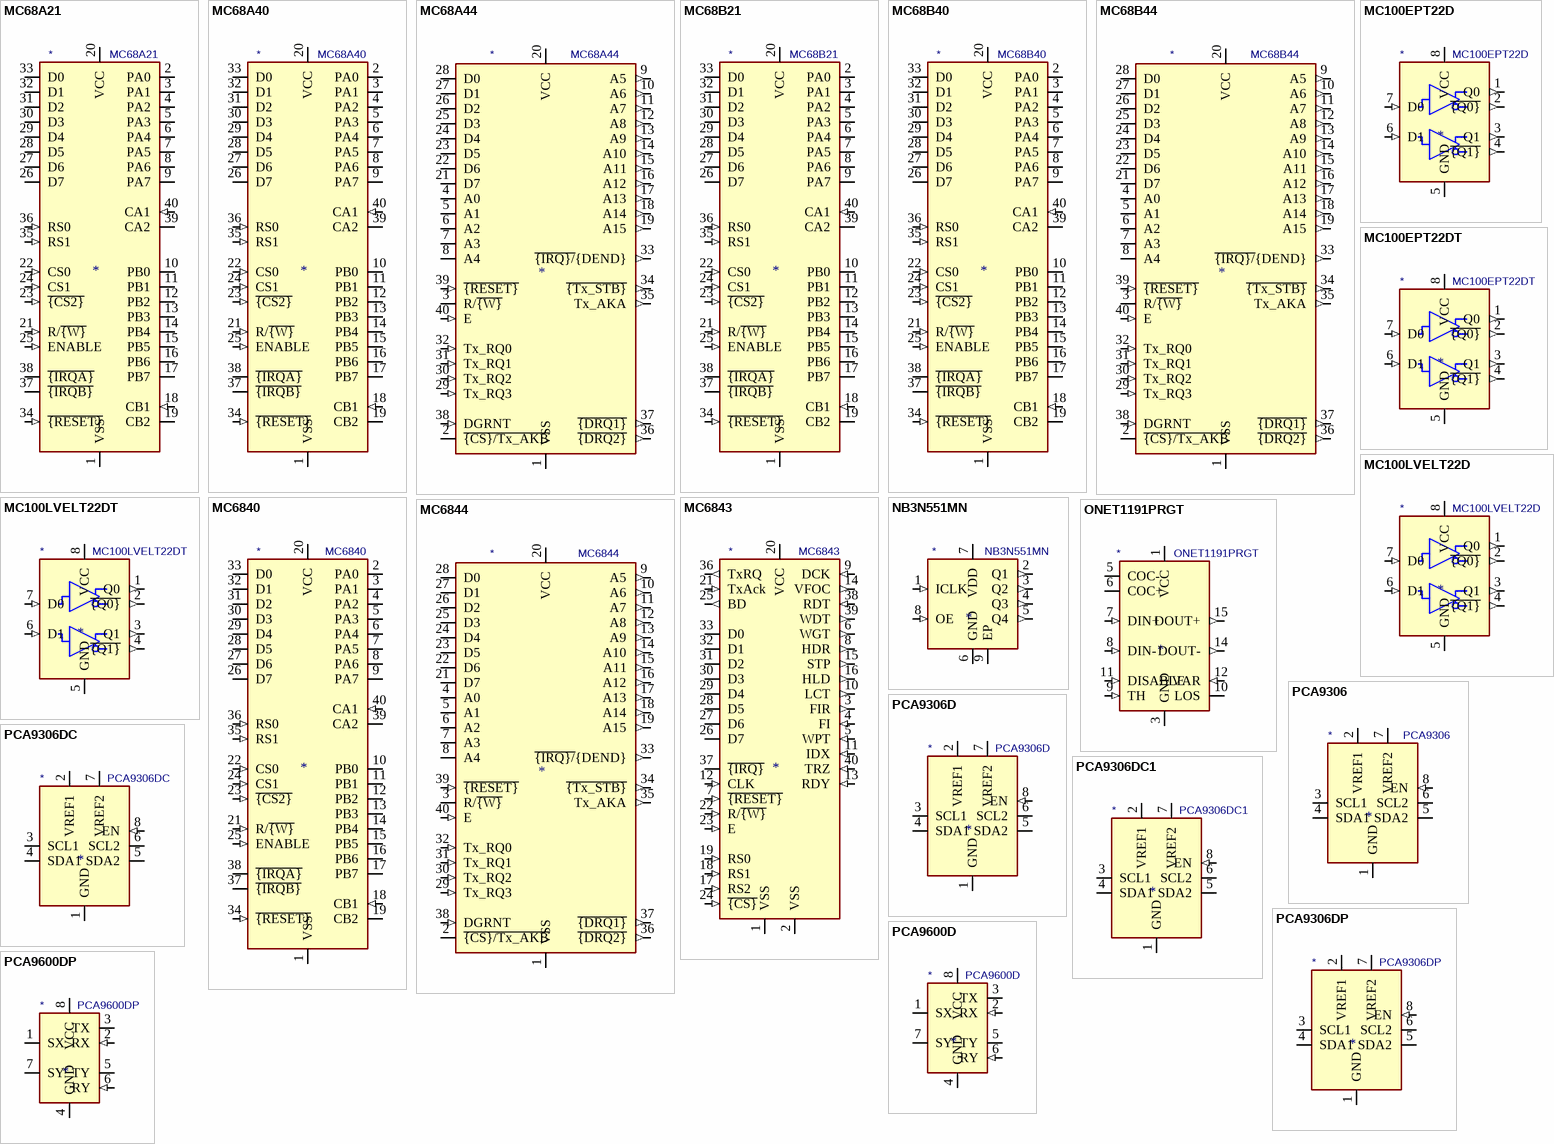
[diagram p3: symbols MC68A21 to PCA9600DP]

## MC68A21
designator *  value MC68A21
ki_keywords: PIA; ki_description: Peripheral Interface Adapter 1.5MHz, DIP-40; ki_fp_filters: DIP*W15.24mm*; Footprint: Package_DIP:DIP-40_W15.24mm; Supplier: http://pdf.datasheetcatalog.com/datasheet/motorola/6821.pdf
footprint DIP-40_W15.24mm
pins: 1 VSS (power), 2 PA0 (io), 3 PA1 (io), 4 PA2 (io), 5 PA3 (io), 6 PA4 (io), 7 PA5 (io), 8 PA6 (io), 9 PA7 (io), 10 PB0 (io), 11 PB1 (io), 12 PB2 (io), 13 PB3 (io), 14 PB4 (io), 15 PB5 (io), 16 PB6 (io), 17 PB7 (io), 18 CB1 (in), 19 CB2 (io), 20 VCC (power), 21 R/~{{W}} (in), 22 CS0 (in), 23 ~{{CS2}} (in), 24 CS1 (in), 25 ENABLE (in), 26 D7 (io), 27 D6 (io), 28 D5 (io), 29 D4 (io), 30 D3 (io), 31 D2 (io), 32 D1 (io), 33 D0 (io), 34 ~{{RESET}} (in), 35 RS1 (in), 36 RS0 (in), 37 ~{{IRQB}} (oc), 38 ~{{IRQA}} (oc), 39 CA2 (io), 40 CA1 (in)

## MC68A40
designator *  value MC68A40
ki_keywords: PIA; ki_description: Peripheral Interface Adapter 1.5MHz, DIP-40; ki_fp_filters: DIP*W15.24mm*; Footprint: Package_DIP:DIP-40_W15.24mm; Supplier: http://pdf.datasheetcatalog.com/datasheet/motorola/MC6840.pdf
footprint DIP-40_W15.24mm
pins: 1 VSS (power), 2 PA0 (io), 3 PA1 (io), 4 PA2 (io), 5 PA3 (io), 6 PA4 (io), 7 PA5 (io), 8 PA6 (io), 9 PA7 (io), 10 PB0 (io), 11 PB1 (io), 12 PB2 (io), 13 PB3 (io), 14 PB4 (io), 15 PB5 (io), 16 PB6 (io), 17 PB7 (io), 18 CB1 (in), 19 CB2 (io), 20 VCC (power), 21 R/~{{W}} (in), 22 CS0 (in), 23 ~{{CS2}} (in), 24 CS1 (in), 25 ENABLE (in), 26 D7 (io), 27 D6 (io), 28 D5 (io), 29 D4 (io), 30 D3 (io), 31 D2 (io), 32 D1 (io), 33 D0 (io), 34 ~{{RESET}} (in), 35 RS1 (in), 36 RS0 (in), 37 ~{{IRQB}} (oc), 38 ~{{IRQA}} (oc), 39 CA2 (io), 40 CA1 (in)

## MC68A44
designator *  value MC68A44
ki_keywords: Direct Memory Access Controller; ki_description: Direct Memory Access Controller 1.5MHz, DIP-40; ki_fp_filters: DIP*W15.24mm*; Footprint: Package_DIP:DIP-40_W15.24mm; Supplier: http://pdf.datasheetcatalog.com/datasheets/560/501527_DS.pdf
footprint DIP-40_W15.24mm
pins: 1 VSS (power), 2 ~{{CS}/Tx_AKB} (io), 3 R/~{{W}} (io), 4 A0 (io), 5 A1 (io), 6 A2 (io), 7 A3 (io), 8 A4 (io), 9 A5 (out), 10 A6 (out), 11 A7 (out), 12 A8 (out), 13 A9 (out), 14 A10 (out), 15 A11 (out), 16 A12 (out), 17 A13 (out), 18 A14 (out), 19 A15 (out), 20 VCC (power), 21 D7 (io), 22 D6 (io), 23 D5 (io), 24 D4 (io), 25 D3 (io), 26 D2 (io), 27 D1 (io), 28 D0 (io), 29 Tx_RQ3 (in), 30 Tx_RQ2 (in), 31 Tx_RQ1 (in), 32 Tx_RQ0 (in), 33 ~{{IRQ}/}{DEND} (out), 34 ~{{Tx_STB}} (out), 35 Tx_AKA (out), 36 ~{{DRQ2}} (out), 37 ~{{DRQ1}} (out), 38 DGRNT (in), 39 ~{{RESET}} (in), 40 E (in)

## MC68B21
designator *  value MC68B21
ki_keywords: PIA; ki_description: Peripheral Interface Adapter 2MHz, DIP-40; ki_fp_filters: DIP*W15.24mm*; Footprint: Package_DIP:DIP-40_W15.24mm; Supplier: http://pdf.datasheetcatalog.com/datasheet/motorola/6821.pdf
footprint DIP-40_W15.24mm
pins: 1 VSS (power), 2 PA0 (io), 3 PA1 (io), 4 PA2 (io), 5 PA3 (io), 6 PA4 (io), 7 PA5 (io), 8 PA6 (io), 9 PA7 (io), 10 PB0 (io), 11 PB1 (io), 12 PB2 (io), 13 PB3 (io), 14 PB4 (io), 15 PB5 (io), 16 PB6 (io), 17 PB7 (io), 18 CB1 (in), 19 CB2 (io), 20 VCC (power), 21 R/~{{W}} (in), 22 CS0 (in), 23 ~{{CS2}} (in), 24 CS1 (in), 25 ENABLE (in), 26 D7 (io), 27 D6 (io), 28 D5 (io), 29 D4 (io), 30 D3 (io), 31 D2 (io), 32 D1 (io), 33 D0 (io), 34 ~{{RESET}} (in), 35 RS1 (in), 36 RS0 (in), 37 ~{{IRQB}} (oc), 38 ~{{IRQA}} (oc), 39 CA2 (io), 40 CA1 (in)

## MC68B40
designator *  value MC68B40
ki_keywords: PIA; ki_description: Peripheral Interface Adapter 2MHz, DIP-40; ki_fp_filters: DIP*W15.24mm*; Footprint: Package_DIP:DIP-40_W15.24mm; Supplier: http://pdf.datasheetcatalog.com/datasheet/motorola/MC6840.pdf
footprint DIP-40_W15.24mm
pins: 1 VSS (power), 2 PA0 (io), 3 PA1 (io), 4 PA2 (io), 5 PA3 (io), 6 PA4 (io), 7 PA5 (io), 8 PA6 (io), 9 PA7 (io), 10 PB0 (io), 11 PB1 (io), 12 PB2 (io), 13 PB3 (io), 14 PB4 (io), 15 PB5 (io), 16 PB6 (io), 17 PB7 (io), 18 CB1 (in), 19 CB2 (io), 20 VCC (power), 21 R/~{{W}} (in), 22 CS0 (in), 23 ~{{CS2}} (in), 24 CS1 (in), 25 ENABLE (in), 26 D7 (io), 27 D6 (io), 28 D5 (io), 29 D4 (io), 30 D3 (io), 31 D2 (io), 32 D1 (io), 33 D0 (io), 34 ~{{RESET}} (in), 35 RS1 (in), 36 RS0 (in), 37 ~{{IRQB}} (oc), 38 ~{{IRQA}} (oc), 39 CA2 (io), 40 CA1 (in)

## MC68B44
designator *  value MC68B44
ki_keywords: Direct Memory Access Controller; ki_description: Direct Memory Access Controller 2MHz, DIP-40; ki_fp_filters: DIP*W15.24mm*; Footprint: Package_DIP:DIP-40_W15.24mm; Supplier: http://pdf.datasheetcatalog.com/datasheets/560/501527_DS.pdf
footprint DIP-40_W15.24mm
pins: 1 VSS (power), 2 ~{{CS}/Tx_AKB} (io), 3 R/~{{W}} (io), 4 A0 (io), 5 A1 (io), 6 A2 (io), 7 A3 (io), 8 A4 (io), 9 A5 (out), 10 A6 (out), 11 A7 (out), 12 A8 (out), 13 A9 (out), 14 A10 (out), 15 A11 (out), 16 A12 (out), 17 A13 (out), 18 A14 (out), 19 A15 (out), 20 VCC (power), 21 D7 (io), 22 D6 (io), 23 D5 (io), 24 D4 (io), 25 D3 (io), 26 D2 (io), 27 D1 (io), 28 D0 (io), 29 Tx_RQ3 (in), 30 Tx_RQ2 (in), 31 Tx_RQ1 (in), 32 Tx_RQ0 (in), 33 ~{{IRQ}/}{DEND} (out), 34 ~{{Tx_STB}} (out), 35 Tx_AKA (out), 36 ~{{DRQ2}} (out), 37 ~{{DRQ1}} (out), 38 DGRNT (in), 39 ~{{RESET}} (in), 40 E (in)

## MC100EPT22D
designator *  value MC100EPT22D
ki_keywords: PECL buffer interface; ki_description: 3.3 V Dual LVTTL/LVCMOS to Differential LVPECL Translator, SOIC-8; ki_fp_filters: SOIC*3.9x4.9mm*P1.27mm*; Footprint: Package_SO:SOIC-8_3.9x4.9mm_P1.27mm; Supplier: https://www.onsemi.com/pub/Collateral/MC100EPT22-D.PDF
footprint SOIC-8_3.9x4.9mm_P1.27mm
pins: 1 Q0 (out), 2 ~{{Q0}} (out), 3 Q1 (out), 4 ~{{Q1}} (out), 5 GND (power), 6 D1 (in), 7 D0 (in), 8 VCC (power)

## MC100EPT22DT
designator *  value MC100EPT22DT
ki_keywords: PECL buffer interface; ki_description: 3.3 V Dual LVTTL/LVCMOS to Differential LVPECL Translator, TSSOP-8; ki_fp_filters: TSSOP*3x3mm*P0.65mm*; Footprint: Package_SO:TSSOP-8_3x3mm_P0.65mm; Supplier: https://www.onsemi.com/pub/Collateral/MC100EPT22-D.PDF
footprint TSSOP-8_3x3mm_P0.65mm
pins: 1 Q0 (out), 2 ~{{Q0}} (out), 3 Q1 (out), 4 ~{{Q1}} (out), 5 GND (power), 6 D1 (in), 7 D0 (in), 8 VCC (power)

## MC100LVELT22D
designator *  value MC100LVELT22D
ki_keywords: PECL buffer interface; ki_description: 3.3 V Dual LVTTL/LVCMOS to Differential LVPECL Translator, SOIC-8; ki_fp_filters: SOIC*3.9x4.9mm*P1.27mm*; Footprint: Package_SO:SOIC-8_3.9x4.9mm_P1.27mm; Supplier: https://www.onsemi.com/pub/Collateral/MC100LVELT22-D.PDF
footprint SOIC-8_3.9x4.9mm_P1.27mm
pins: 1 Q0 (out), 2 ~{{Q0}} (out), 3 Q1 (out), 4 ~{{Q1}} (out), 5 GND (power), 6 D1 (in), 7 D0 (in), 8 VCC (power)

## MC100LVELT22DT
designator *  value MC100LVELT22DT
ki_keywords: PECL buffer interface; ki_description: 3.3 V Dual LVTTL/LVCMOS to Differential LVPECL Translator, TSSOP-8; ki_fp_filters: TSSOP*3x3mm*P0.65mm*; Footprint: Package_SO:TSSOP-8_3x3mm_P0.65mm; Supplier: https://www.onsemi.com/pub/Collateral/MC100LVELT22-D.PDF
footprint TSSOP-8_3x3mm_P0.65mm
pins: 1 Q0 (out), 2 ~{{Q0}} (out), 3 Q1 (out), 4 ~{{Q1}} (out), 5 GND (power), 6 D1 (in), 7 D0 (in), 8 VCC (power)

## MC6840
designator *  value MC6840
ki_keywords: PIA; ki_description: Peripheral Interface Adapter 1MHz, DIP-40; ki_fp_filters: DIP*W15.24mm*; Footprint: Package_DIP:DIP-40_W15.24mm; Supplier: http://pdf.datasheetcatalog.com/datasheet/motorola/MC6840.pdf
footprint DIP-40_W15.24mm
pins: 1 VSS (power), 2 PA0 (io), 3 PA1 (io), 4 PA2 (io), 5 PA3 (io), 6 PA4 (io), 7 PA5 (io), 8 PA6 (io), 9 PA7 (io), 10 PB0 (io), 11 PB1 (io), 12 PB2 (io), 13 PB3 (io), 14 PB4 (io), 15 PB5 (io), 16 PB6 (io), 17 PB7 (io), 18 CB1 (in), 19 CB2 (io), 20 VCC (power), 21 R/~{{W}} (in), 22 CS0 (in), 23 ~{{CS2}} (in), 24 CS1 (in), 25 ENABLE (in), 26 D7 (io), 27 D6 (io), 28 D5 (io), 29 D4 (io), 30 D3 (io), 31 D2 (io), 32 D1 (io), 33 D0 (io), 34 ~{{RESET}} (in), 35 RS1 (in), 36 RS0 (in), 37 ~{{IRQB}} (oc), 38 ~{{IRQA}} (oc), 39 CA2 (io), 40 CA1 (in)

## MC6843
designator *  value MC6843
ki_keywords: FDC; ki_description: Floppy Disc Controller, DIP-40; ki_fp_filters: DIP*W15.24mm*; Footprint: Package_DIP:DIP-40_W15.24mm; Supplier: http://www.datasheetarchive.com/pdf/download.php?id=355f4f5379c550317997643252fd5cac1bb08e&type=M&query=MC6843P
footprint DIP-40_W15.24mm
pins: 1 VSS (power), 2 VSS (power), 3 FIR (out), 4 FI (in), 5 WPT (in), 6 WGT (out), 7 ~{{RESET}} (in), 8 HDR (out), 9 DCK (in), 10 LCT (out), 11 IDX (in), 12 CLK (in), 13 RDY (in), 14 VFOC (out), 15 STP (out), 16 HLD (out), 17 RS2 (in), 18 RS1 (in), 19 RS0 (in), 20 VCC (power), 21 TxAck (in), 22 R/~{{W}} (in), 23 E (in), 24 ~{{CS}} (in), 25 BD (out), 26 D7 (io), 27 D6 (io), 28 D5 (io), 29 D4 (io), 30 D3 (io), 31 D2 (io), 32 D1 (io), 33 D0 (io), 34 NC (in) hidden, 35 NC (in) hidden, 36 TxRQ (out), 37 ~{{IRQ}} (oc), 38 RDT (in), 39 WDT (out), 40 TRZ (in)

## MC6844
designator *  value MC6844
ki_keywords: Direct Memory Access Controller; ki_description: Direct Memory Access Controller 1MHz, DIP-40; ki_fp_filters: DIP*W15.24mm*; Footprint: Package_DIP:DIP-40_W15.24mm; Supplier: http://pdf.datasheetcatalog.com/datasheets/560/501527_DS.pdf
footprint DIP-40_W15.24mm
pins: 1 VSS (power), 2 ~{{CS}/Tx_AKB} (io), 3 R/~{{W}} (io), 4 A0 (io), 5 A1 (io), 6 A2 (io), 7 A3 (io), 8 A4 (io), 9 A5 (out), 10 A6 (out), 11 A7 (out), 12 A8 (out), 13 A9 (out), 14 A10 (out), 15 A11 (out), 16 A12 (out), 17 A13 (out), 18 A14 (out), 19 A15 (out), 20 VCC (power), 21 D7 (io), 22 D6 (io), 23 D5 (io), 24 D4 (io), 25 D3 (io), 26 D2 (io), 27 D1 (io), 28 D0 (io), 29 Tx_RQ3 (in), 30 Tx_RQ2 (in), 31 Tx_RQ1 (in), 32 Tx_RQ0 (in), 33 ~{{IRQ}/}{DEND} (out), 34 ~{{Tx_STB}} (out), 35 Tx_AKA (out), 36 ~{{DRQ2}} (out), 37 ~{{DRQ1}} (out), 38 DGRNT (in), 39 ~{{RESET}} (in), 40 E (in)